# Altium integrated library MR26_GSS.IntLib: 82 symbols (part 2 of 4)
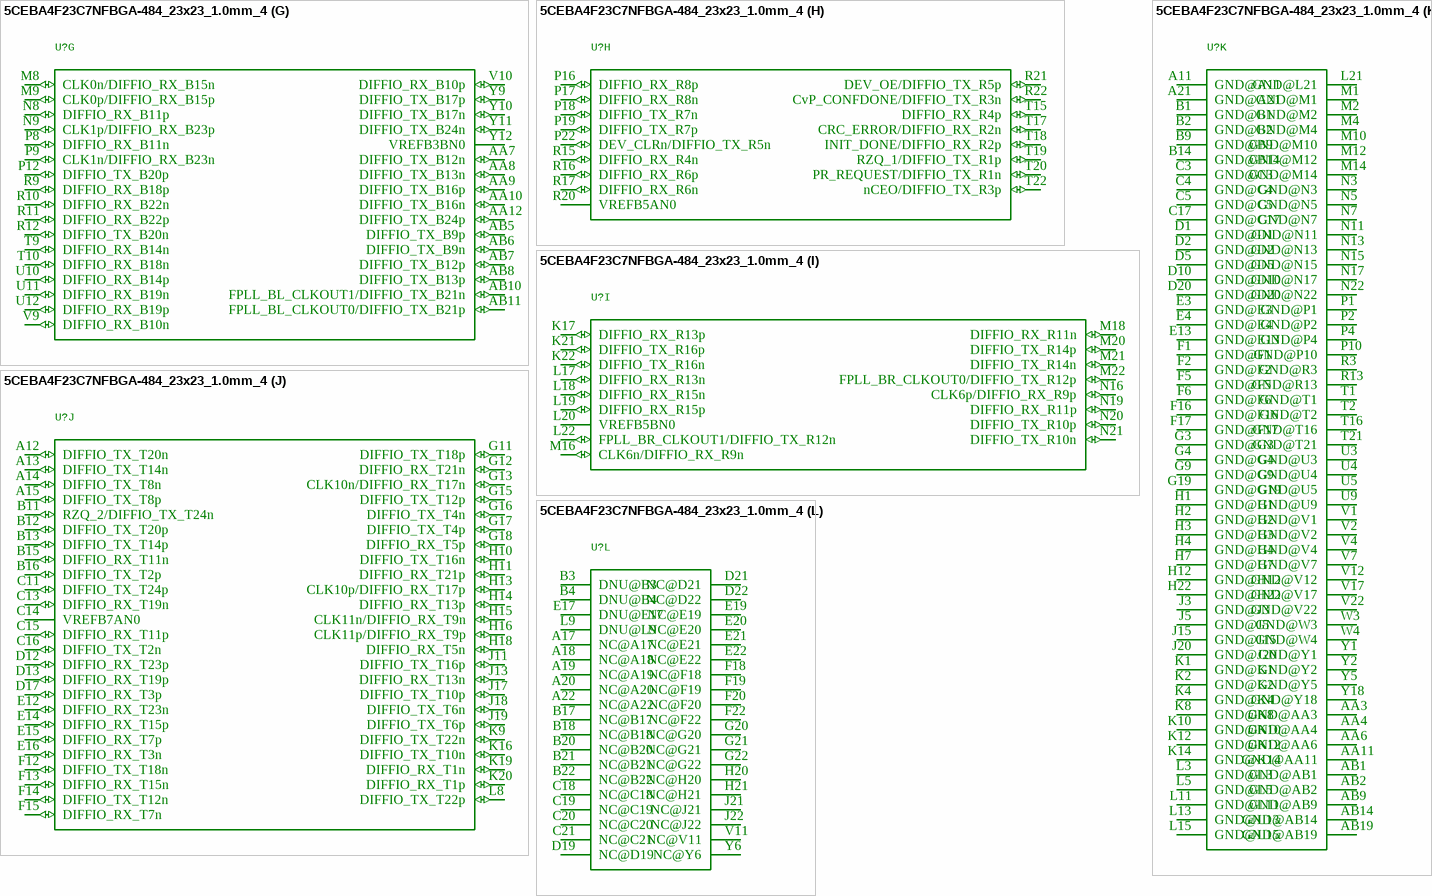
[diagram p19: symbol 5CEBA4F23C7NFBGA-484_23x23_1.0mm_4]

## 5CEBA4F23C7NFBGA-484_23x23_1.0mm_4
designator U?
GateName_1: A; SymbolName_1: 5CEBA4F23C7N_A; GateName_2: B; SymbolName_2: 5CEBA4F23C7N_B; GateName_3: C; SymbolName_3: 5CEBA4F23C7N_C; GateName_4: D; SymbolName_4: 5CEBA4F23C7N_D; GateName_5: E; SymbolName_5: 5CEBA4F23C7N_E; GateName_6: F; SymbolName_6: 5CEBA4F23C7N_F; GateName_7: G; SymbolName_7: 5CEBA4F23C7N_G; GateName_8: H; SymbolName_8: 5CEBA4F23C7N_H; GateName_9: I; SymbolName_9: 5CEBA4F23C7N_I; GateName_10: J; SymbolName_10: 5CEBA4F23C7N_J; GateName_11: K; SymbolName_11: 5CEBA4F23C7N_K; GateName_12: L; SymbolName_12: 5CEBA4F23C7N_L; DeviceName: FBGA-484_23x23_1.0mm; DeviceSetName: 5CEBA4F23C7N; LibraryName: MR26; Package: FBGA-484_23x23_1.0mm
footprint FBGA-484_23x23_1.0mm
part A pins: A1 RREF_TL, A3 VCCBAT (power), A6 VCCIO8A@A6 (power), A16 VCCIO7A@A16 (power), AA16 VCCIO4A@AA16 (power), AA21 VCCIO4A@AA21 (power), B19 VCCIO7A@B19 (power), C7 VCCIO8A@C7 (power), C10 VCCPD7A8A@C10 (power), C12 VCCIO7A@C12 (power), C22 VCCIO7A@C22 (power), D4 VCCIO2A@D4 (power), D8 VCCPD7A8A@D8 (power), D11 VCC_AUX@D11 (power), D14 VCCPD7A8A@D14 (power), D15 VCCIO7A@D15 (power), D16 VCCPD7A8A@D16 (power), D18 VCC_AUX@D18 (power), E1 VCCPD1A2A@E1 (power), E6 VCC_AUX@E6 (power), E8 VCCIO8A@E8 (power), E11 VCCPD7A8A@E11 (power), E18 VCCIO7A@E18 (power), F4 VCCA_FPLL@F4 (power), F8 VCCPGM@F8 (power), F11 VCCIO7A@F11 (power), F21 VCCIO7A@F21 (power), G7 VCCIO8A@G7 (power), G14 VCCIO7A@G14 (power), H17 VCCIO7A@H17 (power), H19 VCCA_FPLL@H19 (power), J1 VCCIO2A@J1 (power), J2 VCCPD1A2A@J2 (power), J4 VCC@J4 (power), J10 VCC@J10 (power), J12 VCC@J12 (power), J14 VCC@J14 (power), J16 VCC@J16 (power), K3 VCC@K3 (power), K5 VCC@K5 (power), K11 VCC@K11 (power), K13 VCC@K13 (power), K15 VCC@K15 (power), K18 VCCIO5B@K18 (power), L4 VCC@L4 (power), L10 VCC@L10 (power), L12 VCC@L12 (power), L14 VCC@L14 (power), L16 VCC@L16 (power), M3 VCCA_FPLL@M3 (power), M11 VCC@M11 (power), M13 VCC@M13 (power), M15 VCC@M15 (power), M17 VCCPD5B@M17 (power), M19 VCCIO5B@M19 (power), N4 VCC@N4 (power), N10 VCC@N10 (power), N12 VCC@N12 (power), N14 VCC@N14 (power), N18 VCCPD5B@N18 (power), P3 VCC@P3 (power), P11 VCC@P11 (power), P13 VCC@P13 (power), P15 VCC@P15 (power), P20 VCCIO5A@P20 (power), P21 VCCPD5A (power), R1 VCCIO2A@R1 (power), R2 VCCPD1A2A@R2 (power), R8 VCCIO3B@R8 (power), R18 VCCIO5A@R18 (power), R19 VCCPGM@R19 (power), T3 VCCA_FPLL@T3 (power), T5 VCCA_FPLL@T5 (power), T6 VCCIO3A@T6 (power), T11 VCCIO3B@T11 (power), U14 VCCIO4A@U14 (power), U18 VCCA_FPLL@U18 (power), U19 VCCIO4A@U19 (power), V8 VCCPGM@V8 (power), W6 VCCPD3A (power), W7 VCC_AUX@W7 (power), W10 VCCIO3B@W10 (power), W11 VCCPD3B4A@W11 (power), W12 VCCPD3B4A@W12 (power), W13 VCC_AUX@W13 (power), W14 VCCPD3B4A@W14 (power), W15 VCCIO4A@W15 (power), W17 VCCPD3B4A@W17 (power), W18 VCC_AUX@W18 (power), W20 VCCIO4A@W20 (power), Y4 VCCIO2A@Y4 (power), Y8 VCCIO3A@Y8 (power), Y13 VCCIO3B@Y13 (power)
part B pins: A2 MSEL2 (in), A4 nCONFIG (in), E5 MSEL3 (in), F3 MSEL4 (in), G5 nCE (in), H5 nSTATUS (oc), J6 MSEL1 (in), K6 CONF_DONE (oc), L6 MSEL0 (in)
part C pins: AA5 AS_DATA2 (io), AB3 AS_DATA1 (io), AB4 AS_DATA0,ASDO (io), M5 TDO (out), M6 PR_DONE/DIFFIO_RX_B7n (io), M7 PR_ERROR/DIFFIO_RX_B7p (io), N6 DATA12/DIFFIO_RX_B3p (io), P5 TMS (in), P6 DATA10/DIFFIO_RX_B3n (io), P7 DIFFIO_TX_B8p (io), R4 nCSO (out), R5 DATA8/DIFFIO_RX_B1p (io), R6 DATA6/DIFFIO_RX_B1n (io), R7 PR_READY/DIFFIO_TX_B8n (io), T4 AS_DATA3 (io), T7 DATA14/DIFFIO_RX_B5n (io), T8 CLKUSR/DIFFIO_RX_B5p (io), U6 DATA13/DIFFIO_TX_B6n (io), U7 DATA5/DIFFIO_TX_B2n (io), U8 DATA7/DIFFIO_TX_B2p (io), V3 DCLK (io), V5 TCK (in), V6 DATA15/DIFFIO_TX_B6p (io), W5 TDI (in), W8 DATA9/DIFFIO_TX_B4n (io), W9 DATA11/DIFFIO_TX_B4p (io), Y7 VREFB3AN0 (power)
part D pins: A5 DIFFIO_TX_T32p (io), A7 DIFFIO_RX_T35n (io), A8 DIFFIO_RX_T35p (io), A9 DIFFIO_TX_T30n (io), A10 DIFFIO_TX_T30p (io), B5 DIFFIO_TX_T32n (io), B6 DIFFIO_TX_T34p (io), B7 DIFFIO_TX_T34n (io), B8 VREFB8AN0 (power), B10 DIFFIO_RX_T31p (io), C6 DIFFIO_TX_T36p (io), C8 DIFFIO_TX_T38n (io), C9 DIFFIO_RX_T31n (io), D6 DIFFIO_TX_T36n (io), D7 DIFFIO_TX_T38p (io), D9 DIFFIO_RX_T37n (io), E7 DIFFIO_TX_T40n (io), E9 DIFFIO_RX_T37p (io), E10 CLK8p/DIFFIO_RX_T33p (io), F7 DIFFIO_TX_T40p (io), F9 CLK8n/DIFFIO_RX_T33n (io), F10 CLK9n/DIFFIO_RX_T25n (io), G6 DIFFIO_RX_T39p (io), G8 FPLL_TL_CLKOUT1/DIFFIO_TX_T28n (io), G10 CLK9p/DIFFIO_RX_T25p (io), H6 DIFFIO_RX_T39n (io), H8 FPLL_TL_CLKOUT0/DIFFIO_TX_T28p (io), H9 DIFFIO_RX_T29n (io), J7 DIFFIO_RX_T27p (io), J8 DIFFIO_RX_T27n (io), J9 DIFFIO_RX_T29p (io), K7 DIFFIO_TX_T26n (io), L7 DIFFIO_TX_T26p (io)
part E pins: AA13 DIFFIO_TX_B28p (io), AA14 DIFFIO_TX_B28n (io), AA15 DIFFIO_TX_B29p (io), AA17 DIFFIO_TX_B36n (io), AA18 DIFFIO_TX_B36p (io), AA19 DIFFIO_TX_B37n (io), AA20 DIFFIO_TX_B37p (io), AA22 DIFFIO_TX_B40p (io), AB12 DIFFIO_TX_B25p (io), AB13 RZQ_0/DIFFIO_TX_B25n (io), AB15 DIFFIO_TX_B29n (io), AB16 VREFB4AN0 (power), AB17 DIFFIO_TX_B32n (io), AB18 DIFFIO_TX_B32p (io), AB20 DIFFIO_TX_B33n (io), AB21 DIFFIO_TX_B33p (io), AB22 DIFFIO_TX_B40n (io), P14 DIFFIO_RX_B43n (io), R14 DIFFIO_RX_B43p (io), T12 DIFFIO_RX_B27n (io), T13 DIFFIO_RX_B27p (io), T14 DIFFIO_RX_B35n (io), U13 DIFFIO_RX_B26p (io), U15 DIFFIO_RX_B35p (io), U16 DIFFIO_RX_B47n (io), U17 DIFFIO_RX_B47p (io), U20 DIFFIO_TX_B48p (io), U21 DIFFIO_TX_B48n (io), U22 DIFFIO_TX_B45n (io), V13 DIFFIO_RX_B26n (io), V14 CLK2n/DIFFIO_RX_B31n (io), V15 CLK2p/DIFFIO_RX_B31p (io), V16 CLK3n/DIFFIO_RX_B39n (io), V18 DIFFIO_RX_B46p (io), V19 DIFFIO_RX_B46n (io), V20 DIFFIO_RX_B38n (io), V21 DIFFIO_TX_B45p (io), W16 CLK3p/DIFFIO_RX_B39p (io), W19 DIFFIO_RX_B38p (io), W21 DIFFIO_TX_B44p (io), W22 DIFFIO_TX_B41p (io), Y14 DIFFIO_RX_B30n (io), Y15 DIFFIO_RX_B30p (io), Y16 DIFFIO_RX_B34n (io), Y17 DIFFIO_RX_B34p (io), Y19 DIFFIO_RX_B42p (io), Y20 DIFFIO_RX_B42n (io), Y21 DIFFIO_TX_B44n (io), Y22 DIFFIO_TX_B41n (io)
part F pins: AA1 DIFFIO_TX_L16n (io), AA2 DIFFIO_TX_L16p (io), C1 DIFFIO_TX_L9n (io), C2 DIFFIO_TX_L9p (io), D3 DIFFIO_RX_L11p (io), E2 DIFFIO_RX_L11n (io), G1 DIFFIO_RX_L10n (io), G2 DIFFIO_RX_L10p (io), L1 DIFFIO_TX_L12n (io), L2 DIFFIO_TX_L12p (io), N1 DIFFIO_TX_L13n (io), N2 DIFFIO_TX_L13p (io), U1 DIFFIO_RX_L14n (io), U2 DIFFIO_RX_L14p (io), W1 VREFB2AN0 (power), W2 DIFFIO_RX_L15n (io), Y3 DIFFIO_RX_L15p (io)
part G pins: AA7 DIFFIO_TX_B12n (io), AA8 DIFFIO_TX_B13n (io), AA9 DIFFIO_TX_B16p (io), AA10 DIFFIO_TX_B16n (io), AA12 DIFFIO_TX_B24p (io), AB5 DIFFIO_TX_B9p (io), AB6 DIFFIO_TX_B9n (io), AB7 DIFFIO_TX_B12p (io), AB8 DIFFIO_TX_B13p (io), AB10 FPLL_BL_CLKOUT1/DIFFIO_TX_B21n (io), AB11 FPLL_BL_CLKOUT0/DIFFIO_TX_B21p (io), M8 CLK0n/DIFFIO_RX_B15n (io), M9 CLK0p/DIFFIO_RX_B15p (io), N8 DIFFIO_RX_B11p (io), N9 CLK1p/DIFFIO_RX_B23p (io), P8 DIFFIO_RX_B11n (io), P9 CLK1n/DIFFIO_RX_B23n (io), P12 DIFFIO_TX_B20p (io), R9 DIFFIO_RX_B18p (io), R10 DIFFIO_RX_B22n (io), R11 DIFFIO_RX_B22p (io), R12 DIFFIO_TX_B20n (io), T9 DIFFIO_RX_B14n (io), T10 DIFFIO_RX_B18n (io), U10 DIFFIO_RX_B14p (io), U11 DIFFIO_RX_B19n (io), U12 DIFFIO_RX_B19p (io), V9 DIFFIO_RX_B10n (io), V10 DIFFIO_RX_B10p (io), Y9 DIFFIO_TX_B17p (io), Y10 DIFFIO_TX_B17n (io), Y11 DIFFIO_TX_B24n (io), Y12 VREFB3BN0 (power)
part H pins: P16 DIFFIO_RX_R8p (io), P17 DIFFIO_RX_R8n (io), P18 DIFFIO_TX_R7n (io), P19 DIFFIO_TX_R7p (io), P22 DEV_CLRn/DIFFIO_TX_R5n (io), R15 DIFFIO_RX_R4n (io), R16 DIFFIO_RX_R6p (io), R17 DIFFIO_RX_R6n (io), R20 VREFB5AN0 (power), R21 DEV_OE/DIFFIO_TX_R5p (io), R22 CvP_CONFDONE/DIFFIO_TX_R3n (io), T15 DIFFIO_RX_R4p (io), T17 CRC_ERROR/DIFFIO_RX_R2n (io), T18 INIT_DONE/DIFFIO_RX_R2p (io), T19 RZQ_1/DIFFIO_TX_R1p (io), T20 PR_REQUEST/DIFFIO_TX_R1n (io), T22 nCEO/DIFFIO_TX_R3p (io)
part I pins: K17 DIFFIO_RX_R13p (io), K21 DIFFIO_TX_R16p (io), K22 DIFFIO_TX_R16n (io), L17 DIFFIO_RX_R13n (io), L18 DIFFIO_RX_R15n (io), L19 DIFFIO_RX_R15p (io), L20 VREFB5BN0 (power), L22 FPLL_BR_CLKOUT1/DIFFIO_TX_R12n (io), M16 CLK6n/DIFFIO_RX_R9n (io), M18 DIFFIO_RX_R11n (io), M20 DIFFIO_TX_R14p (io), M21 DIFFIO_TX_R14n (io), M22 FPLL_BR_CLKOUT0/DIFFIO_TX_R12p (io), N16 CLK6p/DIFFIO_RX_R9p (io), N19 DIFFIO_RX_R11p (io), N20 DIFFIO_TX_R10p (io), N21 DIFFIO_TX_R10n (io)
part J pins: A12 DIFFIO_TX_T20n (io), A13 DIFFIO_TX_T14n (io), A14 DIFFIO_TX_T8n (io), A15 DIFFIO_TX_T8p (io), B11 RZQ_2/DIFFIO_TX_T24n (io), B12 DIFFIO_TX_T20p (io), B13 DIFFIO_TX_T14p (io), B15 DIFFIO_RX_T11n (io), B16 DIFFIO_TX_T2p (io), C11 DIFFIO_TX_T24p (io), C13 DIFFIO_RX_T19n (io), C14 VREFB7AN0 (power), C15 DIFFIO_RX_T11p (io), C16 DIFFIO_TX_T2n (io), D12 DIFFIO_RX_T23p (io), D13 DIFFIO_RX_T19p (io), D17 DIFFIO_RX_T3p (io), E12 DIFFIO_RX_T23n (io), E14 DIFFIO_RX_T15p (io), E15 DIFFIO_RX_T7p (io), E16 DIFFIO_RX_T3n (io), F12 DIFFIO_TX_T18n (io), F13 DIFFIO_RX_T15n (io), F14 DIFFIO_TX_T12n (io), F15 DIFFIO_RX_T7n (io), G11 DIFFIO_TX_T18p (io), G12 DIFFIO_RX_T21n (io), G13 CLK10n/DIFFIO_RX_T17n (io), G15 DIFFIO_TX_T12p (io), G16 DIFFIO_TX_T4n (io), G17 DIFFIO_TX_T4p (io), G18 DIFFIO_RX_T5p (io), H10 DIFFIO_TX_T16n (io), H11 DIFFIO_RX_T21p (io), H13 CLK10p/DIFFIO_RX_T17p (io), H14 DIFFIO_RX_T13p (io), H15 CLK11n/DIFFIO_RX_T9n (io), H16 CLK11p/DIFFIO_RX_T9p (io), H18 DIFFIO_RX_T5n (io), J11 DIFFIO_TX_T16p (io), J13 DIFFIO_RX_T13n (io), J17 DIFFIO_TX_T10p (io), J18 DIFFIO_TX_T6n (io), J19 DIFFIO_TX_T6p (io), K9 DIFFIO_TX_T22n (io), K16 DIFFIO_TX_T10n (io), K19 DIFFIO_RX_T1n (io), K20 DIFFIO_RX_T1p (io), L8 DIFFIO_TX_T22p (io)
part K pins: A11 GND@A11 (power), A21 GND@A21 (power), AA3 GND@AA3 (power), AA4 GND@AA4 (power), AA6 GND@AA6 (power), AA11 GND@AA11 (power), AB1 GND@AB1 (power), AB2 GND@AB2 (power), AB9 GND@AB9 (power), AB14 GND@AB14 (power), AB19 GND@AB19 (power), B1 GND@B1 (power), B2 GND@B2 (power), B9 GND@B9 (power), B14 GND@B14 (power), C3 GND@C3 (power), C4 GND@C4 (power), C5 GND@C5 (power), C17 GND@C17 (power), D1 GND@D1 (power), D2 GND@D2 (power), D5 GND@D5 (power), D10 GND@D10 (power), D20 GND@D20 (power), E3 GND@E3 (power), E4 GND@E4 (power), E13 GND@E13 (power), F1 GND@F1 (power), F2 GND@F2 (power), F5 GND@F5 (power), F6 GND@F6 (power), F16 GND@F16 (power), F17 GND@F17 (power), G3 GND@G3 (power), G4 GND@G4 (power), G9 GND@G9 (power), G19 GND@G19 (power), H1 GND@H1 (power), H2 GND@H2 (power), H3 GND@H3 (power), H4 GND@H4 (power), H7 GND@H7 (power), H12 GND@H12 (power), H22 GND@H22 (power), J3 GND@J3 (power), J5 GND@J5 (power), J15 GND@J15 (power), J20 GND@J20 (power), K1 GND@K1 (power), K2 GND@K2 (power), K4 GND@K4 (power), K8 GND@K8 (power), K10 GND@K10 (power), K12 GND@K12 (power), K14 GND@K14 (power), L3 GND@L3 (power), L5 GND@L5 (power), L11 GND@L11 (power), L13 GND@L13 (power), L15 GND@L15 (power), L21 GND@L21 (power), M1 GND@M1 (power), M2 GND@M2 (power), M4 GND@M4 (power), M10 GND@M10 (power), M12 GND@M12 (power), M14 GND@M14 (power), N3 GND@N3 (power), N5 GND@N5 (power), N7 GND@N7 (power), N11 GND@N11 (power), N13 GND@N13 (power), N15 GND@N15 (power), N17 GND@N17 (power), N22 GND@N22 (power), P1 GND@P1 (power), P2 GND@P2 (power), P4 GND@P4 (power), P10 GND@P10 (power), R3 GND@R3 (power), R13 GND@R13 (power), T1 GND@T1 (power), T2 GND@T2 (power), T16 GND@T16 (power), T21 GND@T21 (power), U3 GND@U3 (power), U4 GND@U4 (power), U5 GND@U5 (power), U9 GND@U9 (power), V1 GND@V1 (power), V2 GND@V2 (power), V4 GND@V4 (power), V7 GND@V7 (power), V12 GND@V12 (power), V17 GND@V17 (power), V22 GND@V22 (power), W3 GND@W3 (power), W4 GND@W4 (power), Y1 GND@Y1 (power), Y2 GND@Y2 (power), Y5 GND@Y5 (power), Y18 GND@Y18 (power)
part L pins: A17 NC@A17, A18 NC@A18, A19 NC@A19, A20 NC@A20, A22 NC@A22, B3 DNU@B3, B4 DNU@B4, B17 NC@B17, B18 NC@B18, B20 NC@B20, B21 NC@B21, B22 NC@B22, C18 NC@C18, C19 NC@C19, C20 NC@C20, C21 NC@C21, D19 NC@D19, D21 NC@D21, D22 NC@D22, E17 DNU@E17, E19 NC@E19, E20 NC@E20, E21 NC@E21, E22 NC@E22, F18 NC@F18, F19 NC@F19, F20 NC@F20, F22 NC@F22, G20 NC@G20, G21 NC@G21, G22 NC@G22, H20 NC@H20, H21 NC@H21, J21 NC@J21, J22 NC@J22, L9 DNU@L9, V11 NC@V11, Y6 NC@Y6

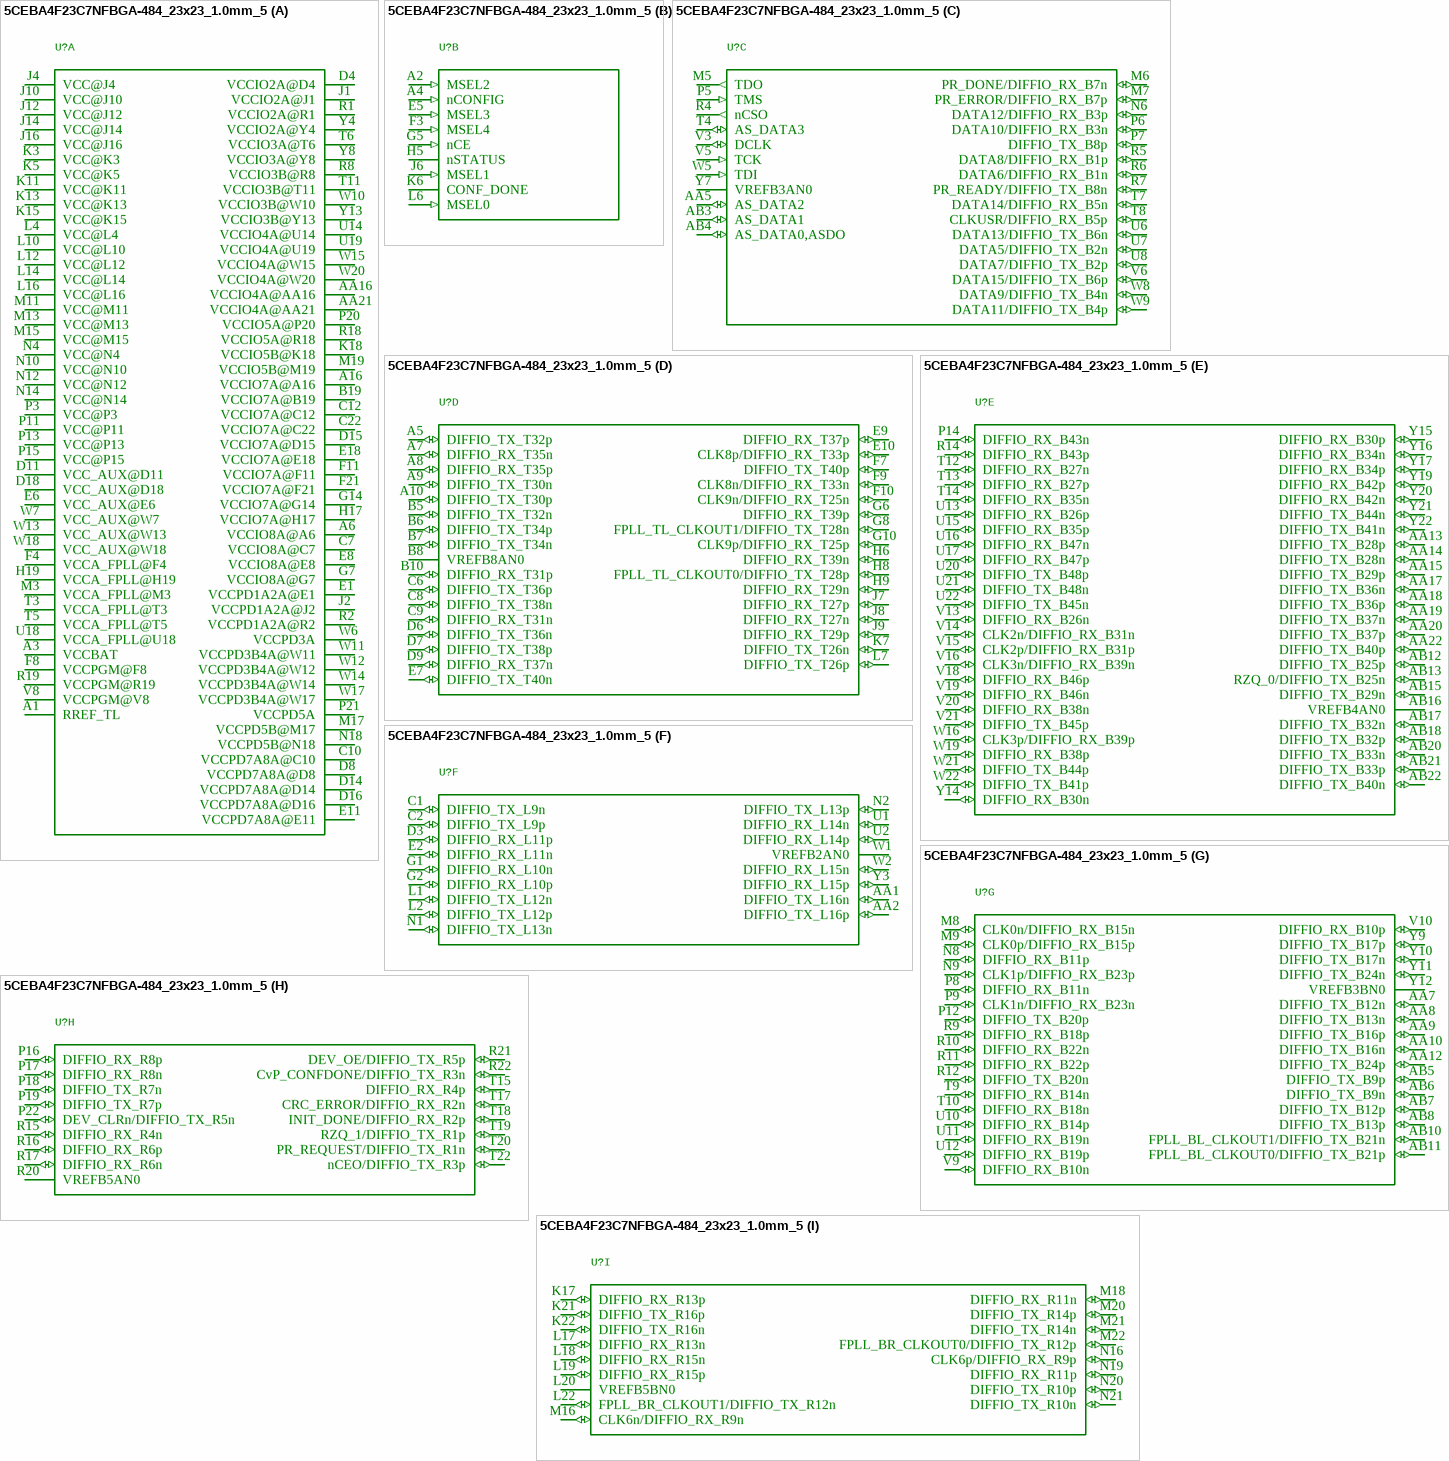
[diagram p7: symbol 5CEBA4F23C7NFBGA-484_23x23_1.0mm_5]

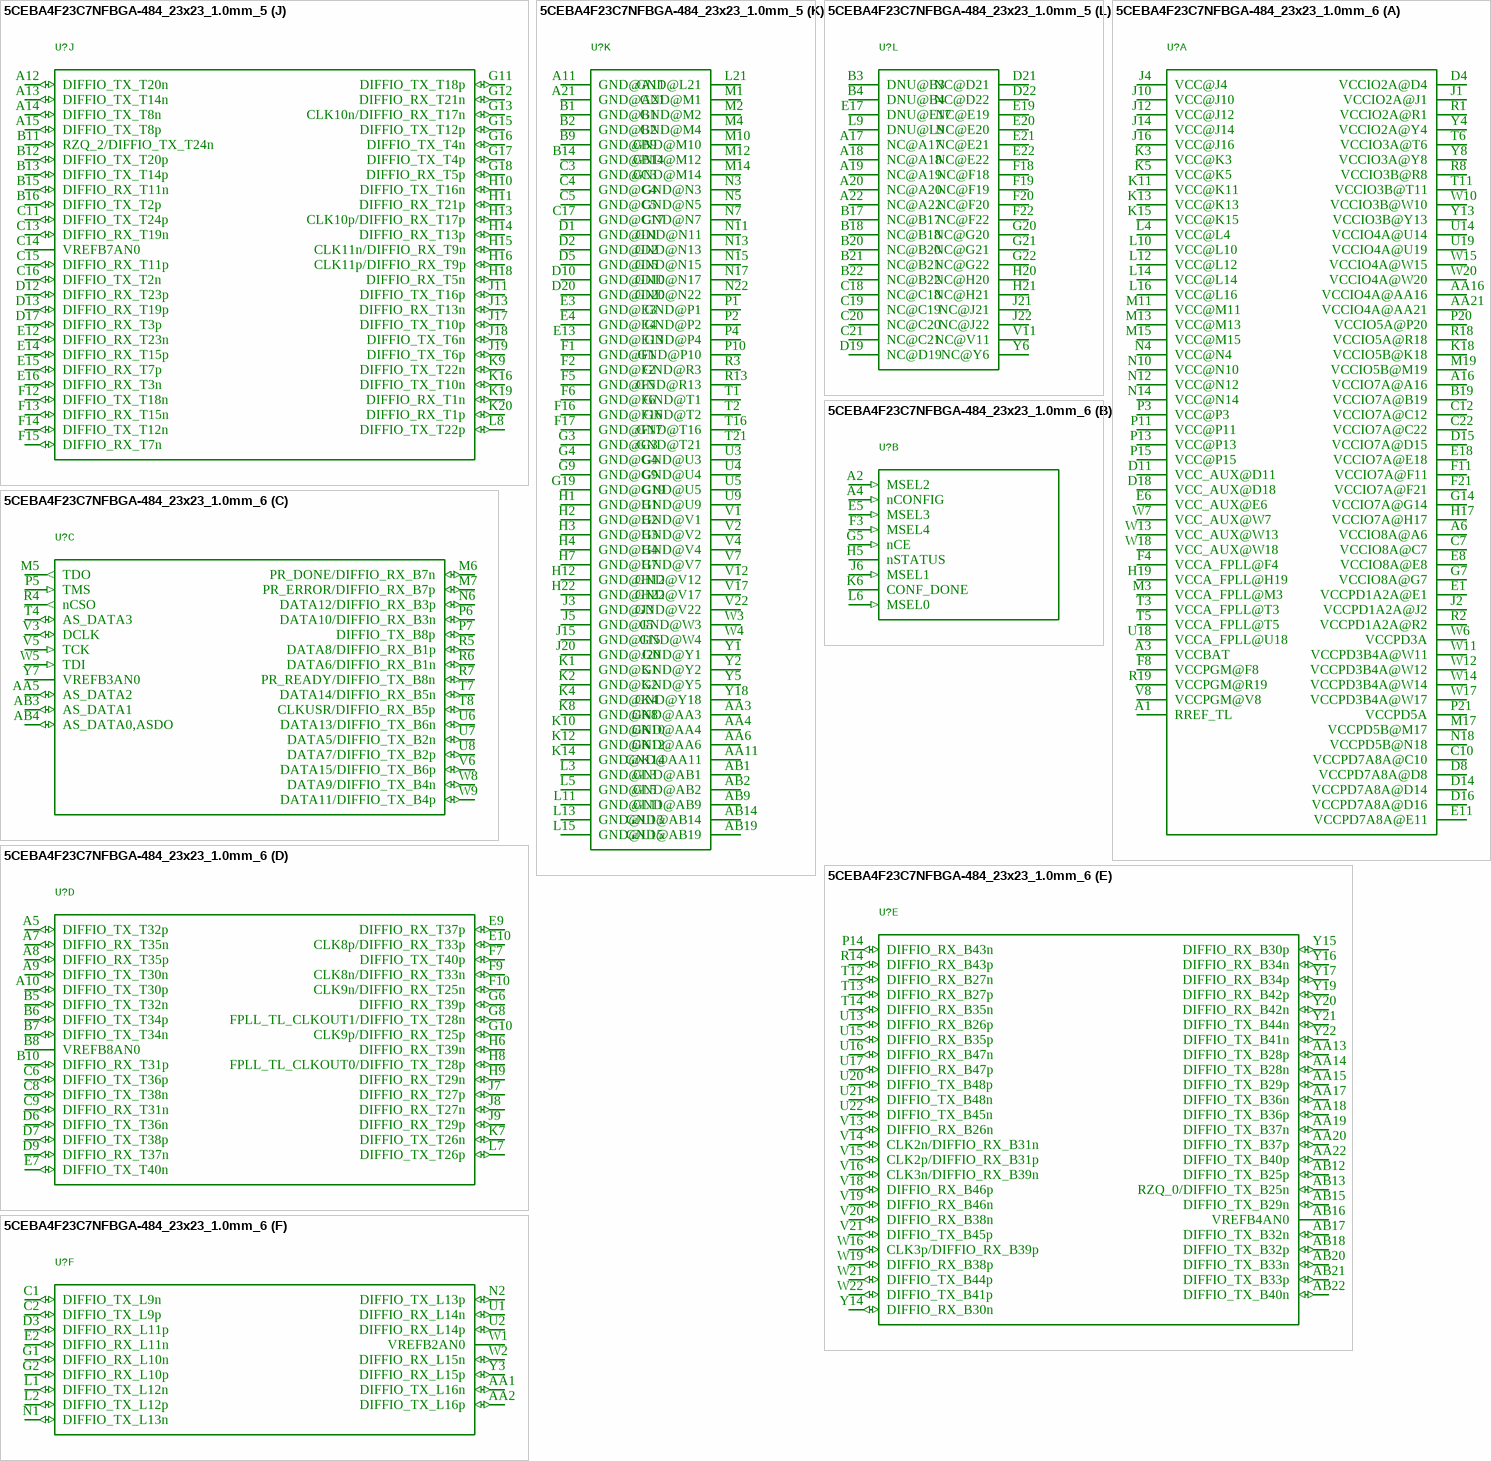
[diagram p8: symbols 5CEBA4F23C7NFBGA-484_23x23_1.0mm_5 to 5CEBA4F23C7NFBGA-484_23x23_1.0mm_6]

## 5CEBA4F23C7NFBGA-484_23x23_1.0mm_5
designator U?
GateName_1: A; SymbolName_1: 5CEBA4F23C7N_A; GateName_2: B; SymbolName_2: 5CEBA4F23C7N_B; GateName_3: C; SymbolName_3: 5CEBA4F23C7N_C; GateName_4: D; SymbolName_4: 5CEBA4F23C7N_D; GateName_5: E; SymbolName_5: 5CEBA4F23C7N_E; GateName_6: F; SymbolName_6: 5CEBA4F23C7N_F; GateName_7: G; SymbolName_7: 5CEBA4F23C7N_G; GateName_8: H; SymbolName_8: 5CEBA4F23C7N_H; GateName_9: I; SymbolName_9: 5CEBA4F23C7N_I; GateName_10: J; SymbolName_10: 5CEBA4F23C7N_J; GateName_11: K; SymbolName_11: 5CEBA4F23C7N_K; GateName_12: L; SymbolName_12: 5CEBA4F23C7N_L; DeviceName: FBGA-484_23x23_1.0mm; DeviceSetName: 5CEBA4F23C7N; LibraryName: MR26; Package: FBGA-484_23x23_1.0mm
footprint FBGA-484_23x23_1.0mm
part A pins: A1 RREF_TL, A3 VCCBAT (power), A6 VCCIO8A@A6 (power), A16 VCCIO7A@A16 (power), AA16 VCCIO4A@AA16 (power), AA21 VCCIO4A@AA21 (power), B19 VCCIO7A@B19 (power), C7 VCCIO8A@C7 (power), C10 VCCPD7A8A@C10 (power), C12 VCCIO7A@C12 (power), C22 VCCIO7A@C22 (power), D4 VCCIO2A@D4 (power), D8 VCCPD7A8A@D8 (power), D11 VCC_AUX@D11 (power), D14 VCCPD7A8A@D14 (power), D15 VCCIO7A@D15 (power), D16 VCCPD7A8A@D16 (power), D18 VCC_AUX@D18 (power), E1 VCCPD1A2A@E1 (power), E6 VCC_AUX@E6 (power), E8 VCCIO8A@E8 (power), E11 VCCPD7A8A@E11 (power), E18 VCCIO7A@E18 (power), F4 VCCA_FPLL@F4 (power), F8 VCCPGM@F8 (power), F11 VCCIO7A@F11 (power), F21 VCCIO7A@F21 (power), G7 VCCIO8A@G7 (power), G14 VCCIO7A@G14 (power), H17 VCCIO7A@H17 (power), H19 VCCA_FPLL@H19 (power), J1 VCCIO2A@J1 (power), J2 VCCPD1A2A@J2 (power), J4 VCC@J4 (power), J10 VCC@J10 (power), J12 VCC@J12 (power), J14 VCC@J14 (power), J16 VCC@J16 (power), K3 VCC@K3 (power), K5 VCC@K5 (power), K11 VCC@K11 (power), K13 VCC@K13 (power), K15 VCC@K15 (power), K18 VCCIO5B@K18 (power), L4 VCC@L4 (power), L10 VCC@L10 (power), L12 VCC@L12 (power), L14 VCC@L14 (power), L16 VCC@L16 (power), M3 VCCA_FPLL@M3 (power), M11 VCC@M11 (power), M13 VCC@M13 (power), M15 VCC@M15 (power), M17 VCCPD5B@M17 (power), M19 VCCIO5B@M19 (power), N4 VCC@N4 (power), N10 VCC@N10 (power), N12 VCC@N12 (power), N14 VCC@N14 (power), N18 VCCPD5B@N18 (power), P3 VCC@P3 (power), P11 VCC@P11 (power), P13 VCC@P13 (power), P15 VCC@P15 (power), P20 VCCIO5A@P20 (power), P21 VCCPD5A (power), R1 VCCIO2A@R1 (power), R2 VCCPD1A2A@R2 (power), R8 VCCIO3B@R8 (power), R18 VCCIO5A@R18 (power), R19 VCCPGM@R19 (power), T3 VCCA_FPLL@T3 (power), T5 VCCA_FPLL@T5 (power), T6 VCCIO3A@T6 (power), T11 VCCIO3B@T11 (power), U14 VCCIO4A@U14 (power), U18 VCCA_FPLL@U18 (power), U19 VCCIO4A@U19 (power), V8 VCCPGM@V8 (power), W6 VCCPD3A (power), W7 VCC_AUX@W7 (power), W10 VCCIO3B@W10 (power), W11 VCCPD3B4A@W11 (power), W12 VCCPD3B4A@W12 (power), W13 VCC_AUX@W13 (power), W14 VCCPD3B4A@W14 (power), W15 VCCIO4A@W15 (power), W17 VCCPD3B4A@W17 (power), W18 VCC_AUX@W18 (power), W20 VCCIO4A@W20 (power), Y4 VCCIO2A@Y4 (power), Y8 VCCIO3A@Y8 (power), Y13 VCCIO3B@Y13 (power)
part B pins: A2 MSEL2 (in), A4 nCONFIG (in), E5 MSEL3 (in), F3 MSEL4 (in), G5 nCE (in), H5 nSTATUS (oc), J6 MSEL1 (in), K6 CONF_DONE (oc), L6 MSEL0 (in)
part C pins: AA5 AS_DATA2 (io), AB3 AS_DATA1 (io), AB4 AS_DATA0,ASDO (io), M5 TDO (out), M6 PR_DONE/DIFFIO_RX_B7n (io), M7 PR_ERROR/DIFFIO_RX_B7p (io), N6 DATA12/DIFFIO_RX_B3p (io), P5 TMS (in), P6 DATA10/DIFFIO_RX_B3n (io), P7 DIFFIO_TX_B8p (io), R4 nCSO (out), R5 DATA8/DIFFIO_RX_B1p (io), R6 DATA6/DIFFIO_RX_B1n (io), R7 PR_READY/DIFFIO_TX_B8n (io), T4 AS_DATA3 (io), T7 DATA14/DIFFIO_RX_B5n (io), T8 CLKUSR/DIFFIO_RX_B5p (io), U6 DATA13/DIFFIO_TX_B6n (io), U7 DATA5/DIFFIO_TX_B2n (io), U8 DATA7/DIFFIO_TX_B2p (io), V3 DCLK (io), V5 TCK (in), V6 DATA15/DIFFIO_TX_B6p (io), W5 TDI (in), W8 DATA9/DIFFIO_TX_B4n (io), W9 DATA11/DIFFIO_TX_B4p (io), Y7 VREFB3AN0 (power)
part D pins: A5 DIFFIO_TX_T32p (io), A7 DIFFIO_RX_T35n (io), A8 DIFFIO_RX_T35p (io), A9 DIFFIO_TX_T30n (io), A10 DIFFIO_TX_T30p (io), B5 DIFFIO_TX_T32n (io), B6 DIFFIO_TX_T34p (io), B7 DIFFIO_TX_T34n (io), B8 VREFB8AN0 (power), B10 DIFFIO_RX_T31p (io), C6 DIFFIO_TX_T36p (io), C8 DIFFIO_TX_T38n (io), C9 DIFFIO_RX_T31n (io), D6 DIFFIO_TX_T36n (io), D7 DIFFIO_TX_T38p (io), D9 DIFFIO_RX_T37n (io), E7 DIFFIO_TX_T40n (io), E9 DIFFIO_RX_T37p (io), E10 CLK8p/DIFFIO_RX_T33p (io), F7 DIFFIO_TX_T40p (io), F9 CLK8n/DIFFIO_RX_T33n (io), F10 CLK9n/DIFFIO_RX_T25n (io), G6 DIFFIO_RX_T39p (io), G8 FPLL_TL_CLKOUT1/DIFFIO_TX_T28n (io), G10 CLK9p/DIFFIO_RX_T25p (io), H6 DIFFIO_RX_T39n (io), H8 FPLL_TL_CLKOUT0/DIFFIO_TX_T28p (io), H9 DIFFIO_RX_T29n (io), J7 DIFFIO_RX_T27p (io), J8 DIFFIO_RX_T27n (io), J9 DIFFIO_RX_T29p (io), K7 DIFFIO_TX_T26n (io), L7 DIFFIO_TX_T26p (io)
part E pins: AA13 DIFFIO_TX_B28p (io), AA14 DIFFIO_TX_B28n (io), AA15 DIFFIO_TX_B29p (io), AA17 DIFFIO_TX_B36n (io), AA18 DIFFIO_TX_B36p (io), AA19 DIFFIO_TX_B37n (io), AA20 DIFFIO_TX_B37p (io), AA22 DIFFIO_TX_B40p (io), AB12 DIFFIO_TX_B25p (io), AB13 RZQ_0/DIFFIO_TX_B25n (io), AB15 DIFFIO_TX_B29n (io), AB16 VREFB4AN0 (power), AB17 DIFFIO_TX_B32n (io), AB18 DIFFIO_TX_B32p (io), AB20 DIFFIO_TX_B33n (io), AB21 DIFFIO_TX_B33p (io), AB22 DIFFIO_TX_B40n (io), P14 DIFFIO_RX_B43n (io), R14 DIFFIO_RX_B43p (io), T12 DIFFIO_RX_B27n (io), T13 DIFFIO_RX_B27p (io), T14 DIFFIO_RX_B35n (io), U13 DIFFIO_RX_B26p (io), U15 DIFFIO_RX_B35p (io), U16 DIFFIO_RX_B47n (io), U17 DIFFIO_RX_B47p (io), U20 DIFFIO_TX_B48p (io), U21 DIFFIO_TX_B48n (io), U22 DIFFIO_TX_B45n (io), V13 DIFFIO_RX_B26n (io), V14 CLK2n/DIFFIO_RX_B31n (io), V15 CLK2p/DIFFIO_RX_B31p (io), V16 CLK3n/DIFFIO_RX_B39n (io), V18 DIFFIO_RX_B46p (io), V19 DIFFIO_RX_B46n (io), V20 DIFFIO_RX_B38n (io), V21 DIFFIO_TX_B45p (io), W16 CLK3p/DIFFIO_RX_B39p (io), W19 DIFFIO_RX_B38p (io), W21 DIFFIO_TX_B44p (io), W22 DIFFIO_TX_B41p (io), Y14 DIFFIO_RX_B30n (io), Y15 DIFFIO_RX_B30p (io), Y16 DIFFIO_RX_B34n (io), Y17 DIFFIO_RX_B34p (io), Y19 DIFFIO_RX_B42p (io), Y20 DIFFIO_RX_B42n (io), Y21 DIFFIO_TX_B44n (io), Y22 DIFFIO_TX_B41n (io)
part F pins: AA1 DIFFIO_TX_L16n (io), AA2 DIFFIO_TX_L16p (io), C1 DIFFIO_TX_L9n (io), C2 DIFFIO_TX_L9p (io), D3 DIFFIO_RX_L11p (io), E2 DIFFIO_RX_L11n (io), G1 DIFFIO_RX_L10n (io), G2 DIFFIO_RX_L10p (io), L1 DIFFIO_TX_L12n (io), L2 DIFFIO_TX_L12p (io), N1 DIFFIO_TX_L13n (io), N2 DIFFIO_TX_L13p (io), U1 DIFFIO_RX_L14n (io), U2 DIFFIO_RX_L14p (io), W1 VREFB2AN0 (power), W2 DIFFIO_RX_L15n (io), Y3 DIFFIO_RX_L15p (io)
part G pins: AA7 DIFFIO_TX_B12n (io), AA8 DIFFIO_TX_B13n (io), AA9 DIFFIO_TX_B16p (io), AA10 DIFFIO_TX_B16n (io), AA12 DIFFIO_TX_B24p (io), AB5 DIFFIO_TX_B9p (io), AB6 DIFFIO_TX_B9n (io), AB7 DIFFIO_TX_B12p (io), AB8 DIFFIO_TX_B13p (io), AB10 FPLL_BL_CLKOUT1/DIFFIO_TX_B21n (io), AB11 FPLL_BL_CLKOUT0/DIFFIO_TX_B21p (io), M8 CLK0n/DIFFIO_RX_B15n (io), M9 CLK0p/DIFFIO_RX_B15p (io), N8 DIFFIO_RX_B11p (io), N9 CLK1p/DIFFIO_RX_B23p (io), P8 DIFFIO_RX_B11n (io), P9 CLK1n/DIFFIO_RX_B23n (io), P12 DIFFIO_TX_B20p (io), R9 DIFFIO_RX_B18p (io), R10 DIFFIO_RX_B22n (io), R11 DIFFIO_RX_B22p (io), R12 DIFFIO_TX_B20n (io), T9 DIFFIO_RX_B14n (io), T10 DIFFIO_RX_B18n (io), U10 DIFFIO_RX_B14p (io), U11 DIFFIO_RX_B19n (io), U12 DIFFIO_RX_B19p (io), V9 DIFFIO_RX_B10n (io), V10 DIFFIO_RX_B10p (io), Y9 DIFFIO_TX_B17p (io), Y10 DIFFIO_TX_B17n (io), Y11 DIFFIO_TX_B24n (io), Y12 VREFB3BN0 (power)
part H pins: P16 DIFFIO_RX_R8p (io), P17 DIFFIO_RX_R8n (io), P18 DIFFIO_TX_R7n (io), P19 DIFFIO_TX_R7p (io), P22 DEV_CLRn/DIFFIO_TX_R5n (io), R15 DIFFIO_RX_R4n (io), R16 DIFFIO_RX_R6p (io), R17 DIFFIO_RX_R6n (io), R20 VREFB5AN0 (power), R21 DEV_OE/DIFFIO_TX_R5p (io), R22 CvP_CONFDONE/DIFFIO_TX_R3n (io), T15 DIFFIO_RX_R4p (io), T17 CRC_ERROR/DIFFIO_RX_R2n (io), T18 INIT_DONE/DIFFIO_RX_R2p (io), T19 RZQ_1/DIFFIO_TX_R1p (io), T20 PR_REQUEST/DIFFIO_TX_R1n (io), T22 nCEO/DIFFIO_TX_R3p (io)
part I pins: K17 DIFFIO_RX_R13p (io), K21 DIFFIO_TX_R16p (io), K22 DIFFIO_TX_R16n (io), L17 DIFFIO_RX_R13n (io), L18 DIFFIO_RX_R15n (io), L19 DIFFIO_RX_R15p (io), L20 VREFB5BN0 (power), L22 FPLL_BR_CLKOUT1/DIFFIO_TX_R12n (io), M16 CLK6n/DIFFIO_RX_R9n (io), M18 DIFFIO_RX_R11n (io), M20 DIFFIO_TX_R14p (io), M21 DIFFIO_TX_R14n (io), M22 FPLL_BR_CLKOUT0/DIFFIO_TX_R12p (io), N16 CLK6p/DIFFIO_RX_R9p (io), N19 DIFFIO_RX_R11p (io), N20 DIFFIO_TX_R10p (io), N21 DIFFIO_TX_R10n (io)
part J pins: A12 DIFFIO_TX_T20n (io), A13 DIFFIO_TX_T14n (io), A14 DIFFIO_TX_T8n (io), A15 DIFFIO_TX_T8p (io), B11 RZQ_2/DIFFIO_TX_T24n (io), B12 DIFFIO_TX_T20p (io), B13 DIFFIO_TX_T14p (io), B15 DIFFIO_RX_T11n (io), B16 DIFFIO_TX_T2p (io), C11 DIFFIO_TX_T24p (io), C13 DIFFIO_RX_T19n (io), C14 VREFB7AN0 (power), C15 DIFFIO_RX_T11p (io), C16 DIFFIO_TX_T2n (io), D12 DIFFIO_RX_T23p (io), D13 DIFFIO_RX_T19p (io), D17 DIFFIO_RX_T3p (io), E12 DIFFIO_RX_T23n (io), E14 DIFFIO_RX_T15p (io), E15 DIFFIO_RX_T7p (io), E16 DIFFIO_RX_T3n (io), F12 DIFFIO_TX_T18n (io), F13 DIFFIO_RX_T15n (io), F14 DIFFIO_TX_T12n (io), F15 DIFFIO_RX_T7n (io), G11 DIFFIO_TX_T18p (io), G12 DIFFIO_RX_T21n (io), G13 CLK10n/DIFFIO_RX_T17n (io), G15 DIFFIO_TX_T12p (io), G16 DIFFIO_TX_T4n (io), G17 DIFFIO_TX_T4p (io), G18 DIFFIO_RX_T5p (io), H10 DIFFIO_TX_T16n (io), H11 DIFFIO_RX_T21p (io), H13 CLK10p/DIFFIO_RX_T17p (io), H14 DIFFIO_RX_T13p (io), H15 CLK11n/DIFFIO_RX_T9n (io), H16 CLK11p/DIFFIO_RX_T9p (io), H18 DIFFIO_RX_T5n (io), J11 DIFFIO_TX_T16p (io), J13 DIFFIO_RX_T13n (io), J17 DIFFIO_TX_T10p (io), J18 DIFFIO_TX_T6n (io), J19 DIFFIO_TX_T6p (io), K9 DIFFIO_TX_T22n (io), K16 DIFFIO_TX_T10n (io), K19 DIFFIO_RX_T1n (io), K20 DIFFIO_RX_T1p (io), L8 DIFFIO_TX_T22p (io)
part K pins: A11 GND@A11 (power), A21 GND@A21 (power), AA3 GND@AA3 (power), AA4 GND@AA4 (power), AA6 GND@AA6 (power), AA11 GND@AA11 (power), AB1 GND@AB1 (power), AB2 GND@AB2 (power), AB9 GND@AB9 (power), AB14 GND@AB14 (power), AB19 GND@AB19 (power), B1 GND@B1 (power), B2 GND@B2 (power), B9 GND@B9 (power), B14 GND@B14 (power), C3 GND@C3 (power), C4 GND@C4 (power), C5 GND@C5 (power), C17 GND@C17 (power), D1 GND@D1 (power), D2 GND@D2 (power), D5 GND@D5 (power), D10 GND@D10 (power), D20 GND@D20 (power), E3 GND@E3 (power), E4 GND@E4 (power), E13 GND@E13 (power), F1 GND@F1 (power), F2 GND@F2 (power), F5 GND@F5 (power), F6 GND@F6 (power), F16 GND@F16 (power), F17 GND@F17 (power), G3 GND@G3 (power), G4 GND@G4 (power), G9 GND@G9 (power), G19 GND@G19 (power), H1 GND@H1 (power), H2 GND@H2 (power), H3 GND@H3 (power), H4 GND@H4 (power), H7 GND@H7 (power), H12 GND@H12 (power), H22 GND@H22 (power), J3 GND@J3 (power), J5 GND@J5 (power), J15 GND@J15 (power), J20 GND@J20 (power), K1 GND@K1 (power), K2 GND@K2 (power), K4 GND@K4 (power), K8 GND@K8 (power), K10 GND@K10 (power), K12 GND@K12 (power), K14 GND@K14 (power), L3 GND@L3 (power), L5 GND@L5 (power), L11 GND@L11 (power), L13 GND@L13 (power), L15 GND@L15 (power), L21 GND@L21 (power), M1 GND@M1 (power), M2 GND@M2 (power), M4 GND@M4 (power), M10 GND@M10 (power), M12 GND@M12 (power), M14 GND@M14 (power), N3 GND@N3 (power), N5 GND@N5 (power), N7 GND@N7 (power), N11 GND@N11 (power), N13 GND@N13 (power), N15 GND@N15 (power), N17 GND@N17 (power), N22 GND@N22 (power), P1 GND@P1 (power), P2 GND@P2 (power), P4 GND@P4 (power), P10 GND@P10 (power), R3 GND@R3 (power), R13 GND@R13 (power), T1 GND@T1 (power), T2 GND@T2 (power), T16 GND@T16 (power), T21 GND@T21 (power), U3 GND@U3 (power), U4 GND@U4 (power), U5 GND@U5 (power), U9 GND@U9 (power), V1 GND@V1 (power), V2 GND@V2 (power), V4 GND@V4 (power), V7 GND@V7 (power), V12 GND@V12 (power), V17 GND@V17 (power), V22 GND@V22 (power), W3 GND@W3 (power), W4 GND@W4 (power), Y1 GND@Y1 (power), Y2 GND@Y2 (power), Y5 GND@Y5 (power), Y18 GND@Y18 (power)
part L pins: A17 NC@A17, A18 NC@A18, A19 NC@A19, A20 NC@A20, A22 NC@A22, B3 DNU@B3, B4 DNU@B4, B17 NC@B17, B18 NC@B18, B20 NC@B20, B21 NC@B21, B22 NC@B22, C18 NC@C18, C19 NC@C19, C20 NC@C20, C21 NC@C21, D19 NC@D19, D21 NC@D21, D22 NC@D22, E17 DNU@E17, E19 NC@E19, E20 NC@E20, E21 NC@E21, E22 NC@E22, F18 NC@F18, F19 NC@F19, F20 NC@F20, F22 NC@F22, G20 NC@G20, G21 NC@G21, G22 NC@G22, H20 NC@H20, H21 NC@H21, J21 NC@J21, J22 NC@J22, L9 DNU@L9, V11 NC@V11, Y6 NC@Y6

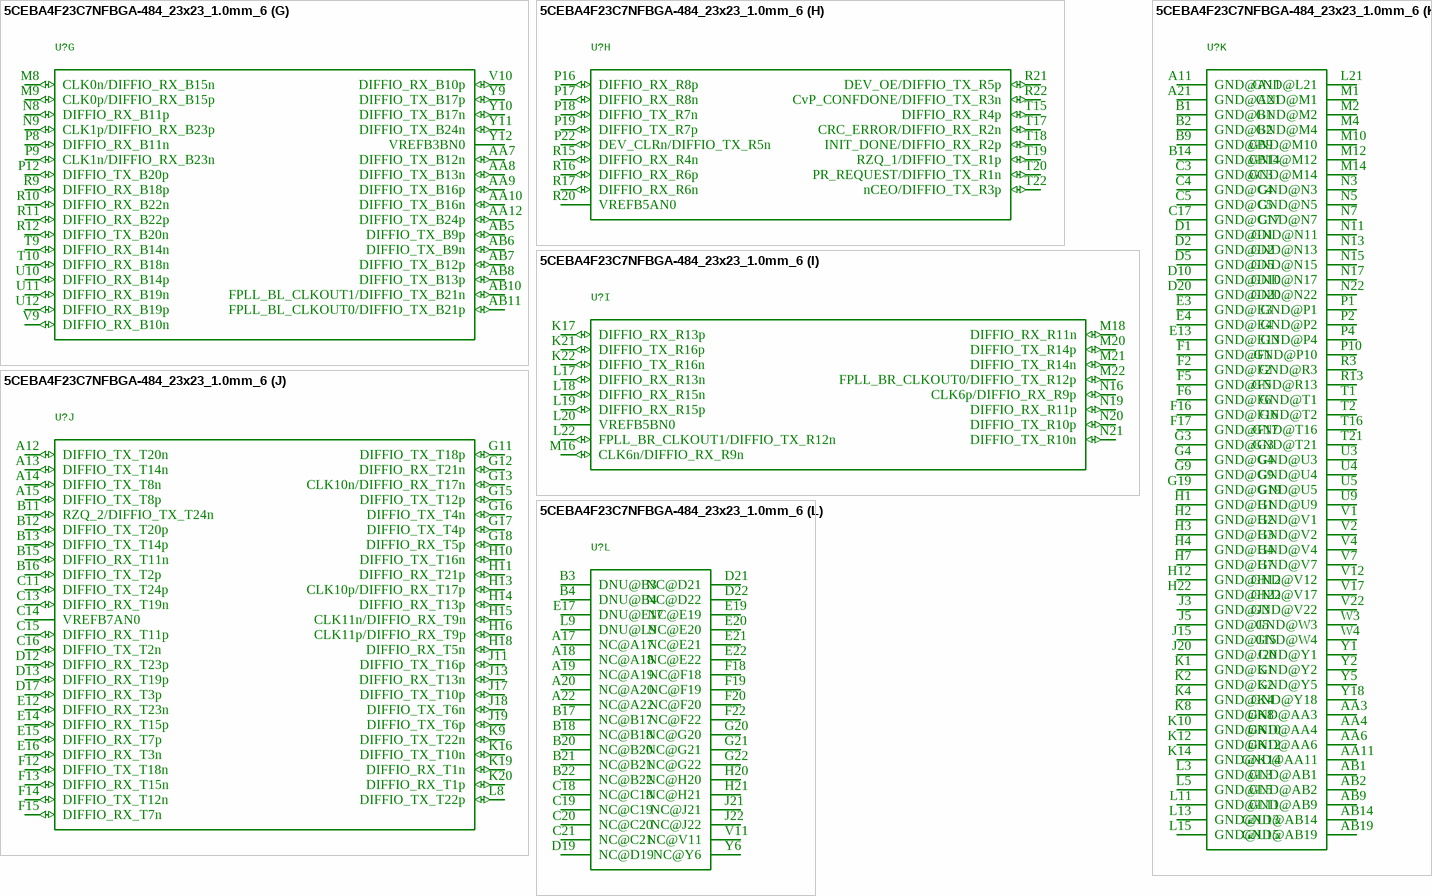
[diagram p9: symbol 5CEBA4F23C7NFBGA-484_23x23_1.0mm_6]

## 5CEBA4F23C7NFBGA-484_23x23_1.0mm_6
designator U?
GateName_1: A; SymbolName_1: 5CEBA4F23C7N_A; GateName_2: B; SymbolName_2: 5CEBA4F23C7N_B; GateName_3: C; SymbolName_3: 5CEBA4F23C7N_C; GateName_4: D; SymbolName_4: 5CEBA4F23C7N_D; GateName_5: E; SymbolName_5: 5CEBA4F23C7N_E; GateName_6: F; SymbolName_6: 5CEBA4F23C7N_F; GateName_7: G; SymbolName_7: 5CEBA4F23C7N_G; GateName_8: H; SymbolName_8: 5CEBA4F23C7N_H; GateName_9: I; SymbolName_9: 5CEBA4F23C7N_I; GateName_10: J; SymbolName_10: 5CEBA4F23C7N_J; GateName_11: K; SymbolName_11: 5CEBA4F23C7N_K; GateName_12: L; SymbolName_12: 5CEBA4F23C7N_L; DeviceName: FBGA-484_23x23_1.0mm; DeviceSetName: 5CEBA4F23C7N; LibraryName: MR26; Package: FBGA-484_23x23_1.0mm
footprint FBGA-484_23x23_1.0mm
part A pins: A1 RREF_TL, A3 VCCBAT (power), A6 VCCIO8A@A6 (power), A16 VCCIO7A@A16 (power), AA16 VCCIO4A@AA16 (power), AA21 VCCIO4A@AA21 (power), B19 VCCIO7A@B19 (power), C7 VCCIO8A@C7 (power), C10 VCCPD7A8A@C10 (power), C12 VCCIO7A@C12 (power), C22 VCCIO7A@C22 (power), D4 VCCIO2A@D4 (power), D8 VCCPD7A8A@D8 (power), D11 VCC_AUX@D11 (power), D14 VCCPD7A8A@D14 (power), D15 VCCIO7A@D15 (power), D16 VCCPD7A8A@D16 (power), D18 VCC_AUX@D18 (power), E1 VCCPD1A2A@E1 (power), E6 VCC_AUX@E6 (power), E8 VCCIO8A@E8 (power), E11 VCCPD7A8A@E11 (power), E18 VCCIO7A@E18 (power), F4 VCCA_FPLL@F4 (power), F8 VCCPGM@F8 (power), F11 VCCIO7A@F11 (power), F21 VCCIO7A@F21 (power), G7 VCCIO8A@G7 (power), G14 VCCIO7A@G14 (power), H17 VCCIO7A@H17 (power), H19 VCCA_FPLL@H19 (power), J1 VCCIO2A@J1 (power), J2 VCCPD1A2A@J2 (power), J4 VCC@J4 (power), J10 VCC@J10 (power), J12 VCC@J12 (power), J14 VCC@J14 (power), J16 VCC@J16 (power), K3 VCC@K3 (power), K5 VCC@K5 (power), K11 VCC@K11 (power), K13 VCC@K13 (power), K15 VCC@K15 (power), K18 VCCIO5B@K18 (power), L4 VCC@L4 (power), L10 VCC@L10 (power), L12 VCC@L12 (power), L14 VCC@L14 (power), L16 VCC@L16 (power), M3 VCCA_FPLL@M3 (power), M11 VCC@M11 (power), M13 VCC@M13 (power), M15 VCC@M15 (power), M17 VCCPD5B@M17 (power), M19 VCCIO5B@M19 (power), N4 VCC@N4 (power), N10 VCC@N10 (power), N12 VCC@N12 (power), N14 VCC@N14 (power), N18 VCCPD5B@N18 (power), P3 VCC@P3 (power), P11 VCC@P11 (power), P13 VCC@P13 (power), P15 VCC@P15 (power), P20 VCCIO5A@P20 (power), P21 VCCPD5A (power), R1 VCCIO2A@R1 (power), R2 VCCPD1A2A@R2 (power), R8 VCCIO3B@R8 (power), R18 VCCIO5A@R18 (power), R19 VCCPGM@R19 (power), T3 VCCA_FPLL@T3 (power), T5 VCCA_FPLL@T5 (power), T6 VCCIO3A@T6 (power), T11 VCCIO3B@T11 (power), U14 VCCIO4A@U14 (power), U18 VCCA_FPLL@U18 (power), U19 VCCIO4A@U19 (power), V8 VCCPGM@V8 (power), W6 VCCPD3A (power), W7 VCC_AUX@W7 (power), W10 VCCIO3B@W10 (power), W11 VCCPD3B4A@W11 (power), W12 VCCPD3B4A@W12 (power), W13 VCC_AUX@W13 (power), W14 VCCPD3B4A@W14 (power), W15 VCCIO4A@W15 (power), W17 VCCPD3B4A@W17 (power), W18 VCC_AUX@W18 (power), W20 VCCIO4A@W20 (power), Y4 VCCIO2A@Y4 (power), Y8 VCCIO3A@Y8 (power), Y13 VCCIO3B@Y13 (power)
part B pins: A2 MSEL2 (in), A4 nCONFIG (in), E5 MSEL3 (in), F3 MSEL4 (in), G5 nCE (in), H5 nSTATUS (oc), J6 MSEL1 (in), K6 CONF_DONE (oc), L6 MSEL0 (in)
part C pins: AA5 AS_DATA2 (io), AB3 AS_DATA1 (io), AB4 AS_DATA0,ASDO (io), M5 TDO (out), M6 PR_DONE/DIFFIO_RX_B7n (io), M7 PR_ERROR/DIFFIO_RX_B7p (io), N6 DATA12/DIFFIO_RX_B3p (io), P5 TMS (in), P6 DATA10/DIFFIO_RX_B3n (io), P7 DIFFIO_TX_B8p (io), R4 nCSO (out), R5 DATA8/DIFFIO_RX_B1p (io), R6 DATA6/DIFFIO_RX_B1n (io), R7 PR_READY/DIFFIO_TX_B8n (io), T4 AS_DATA3 (io), T7 DATA14/DIFFIO_RX_B5n (io), T8 CLKUSR/DIFFIO_RX_B5p (io), U6 DATA13/DIFFIO_TX_B6n (io), U7 DATA5/DIFFIO_TX_B2n (io), U8 DATA7/DIFFIO_TX_B2p (io), V3 DCLK (io), V5 TCK (in), V6 DATA15/DIFFIO_TX_B6p (io), W5 TDI (in), W8 DATA9/DIFFIO_TX_B4n (io), W9 DATA11/DIFFIO_TX_B4p (io), Y7 VREFB3AN0 (power)
part D pins: A5 DIFFIO_TX_T32p (io), A7 DIFFIO_RX_T35n (io), A8 DIFFIO_RX_T35p (io), A9 DIFFIO_TX_T30n (io), A10 DIFFIO_TX_T30p (io), B5 DIFFIO_TX_T32n (io), B6 DIFFIO_TX_T34p (io), B7 DIFFIO_TX_T34n (io), B8 VREFB8AN0 (power), B10 DIFFIO_RX_T31p (io), C6 DIFFIO_TX_T36p (io), C8 DIFFIO_TX_T38n (io), C9 DIFFIO_RX_T31n (io), D6 DIFFIO_TX_T36n (io), D7 DIFFIO_TX_T38p (io), D9 DIFFIO_RX_T37n (io), E7 DIFFIO_TX_T40n (io), E9 DIFFIO_RX_T37p (io), E10 CLK8p/DIFFIO_RX_T33p (io), F7 DIFFIO_TX_T40p (io), F9 CLK8n/DIFFIO_RX_T33n (io), F10 CLK9n/DIFFIO_RX_T25n (io), G6 DIFFIO_RX_T39p (io), G8 FPLL_TL_CLKOUT1/DIFFIO_TX_T28n (io), G10 CLK9p/DIFFIO_RX_T25p (io), H6 DIFFIO_RX_T39n (io), H8 FPLL_TL_CLKOUT0/DIFFIO_TX_T28p (io), H9 DIFFIO_RX_T29n (io), J7 DIFFIO_RX_T27p (io), J8 DIFFIO_RX_T27n (io), J9 DIFFIO_RX_T29p (io), K7 DIFFIO_TX_T26n (io), L7 DIFFIO_TX_T26p (io)
part E pins: AA13 DIFFIO_TX_B28p (io), AA14 DIFFIO_TX_B28n (io), AA15 DIFFIO_TX_B29p (io), AA17 DIFFIO_TX_B36n (io), AA18 DIFFIO_TX_B36p (io), AA19 DIFFIO_TX_B37n (io), AA20 DIFFIO_TX_B37p (io), AA22 DIFFIO_TX_B40p (io), AB12 DIFFIO_TX_B25p (io), AB13 RZQ_0/DIFFIO_TX_B25n (io), AB15 DIFFIO_TX_B29n (io), AB16 VREFB4AN0 (power), AB17 DIFFIO_TX_B32n (io), AB18 DIFFIO_TX_B32p (io), AB20 DIFFIO_TX_B33n (io), AB21 DIFFIO_TX_B33p (io), AB22 DIFFIO_TX_B40n (io), P14 DIFFIO_RX_B43n (io), R14 DIFFIO_RX_B43p (io), T12 DIFFIO_RX_B27n (io), T13 DIFFIO_RX_B27p (io), T14 DIFFIO_RX_B35n (io), U13 DIFFIO_RX_B26p (io), U15 DIFFIO_RX_B35p (io), U16 DIFFIO_RX_B47n (io), U17 DIFFIO_RX_B47p (io), U20 DIFFIO_TX_B48p (io), U21 DIFFIO_TX_B48n (io), U22 DIFFIO_TX_B45n (io), V13 DIFFIO_RX_B26n (io), V14 CLK2n/DIFFIO_RX_B31n (io), V15 CLK2p/DIFFIO_RX_B31p (io), V16 CLK3n/DIFFIO_RX_B39n (io), V18 DIFFIO_RX_B46p (io), V19 DIFFIO_RX_B46n (io), V20 DIFFIO_RX_B38n (io), V21 DIFFIO_TX_B45p (io), W16 CLK3p/DIFFIO_RX_B39p (io), W19 DIFFIO_RX_B38p (io), W21 DIFFIO_TX_B44p (io), W22 DIFFIO_TX_B41p (io), Y14 DIFFIO_RX_B30n (io), Y15 DIFFIO_RX_B30p (io), Y16 DIFFIO_RX_B34n (io), Y17 DIFFIO_RX_B34p (io), Y19 DIFFIO_RX_B42p (io), Y20 DIFFIO_RX_B42n (io), Y21 DIFFIO_TX_B44n (io), Y22 DIFFIO_TX_B41n (io)
part F pins: AA1 DIFFIO_TX_L16n (io), AA2 DIFFIO_TX_L16p (io), C1 DIFFIO_TX_L9n (io), C2 DIFFIO_TX_L9p (io), D3 DIFFIO_RX_L11p (io), E2 DIFFIO_RX_L11n (io), G1 DIFFIO_RX_L10n (io), G2 DIFFIO_RX_L10p (io), L1 DIFFIO_TX_L12n (io), L2 DIFFIO_TX_L12p (io), N1 DIFFIO_TX_L13n (io), N2 DIFFIO_TX_L13p (io), U1 DIFFIO_RX_L14n (io), U2 DIFFIO_RX_L14p (io), W1 VREFB2AN0 (power), W2 DIFFIO_RX_L15n (io), Y3 DIFFIO_RX_L15p (io)
part G pins: AA7 DIFFIO_TX_B12n (io), AA8 DIFFIO_TX_B13n (io), AA9 DIFFIO_TX_B16p (io), AA10 DIFFIO_TX_B16n (io), AA12 DIFFIO_TX_B24p (io), AB5 DIFFIO_TX_B9p (io), AB6 DIFFIO_TX_B9n (io), AB7 DIFFIO_TX_B12p (io), AB8 DIFFIO_TX_B13p (io), AB10 FPLL_BL_CLKOUT1/DIFFIO_TX_B21n (io), AB11 FPLL_BL_CLKOUT0/DIFFIO_TX_B21p (io), M8 CLK0n/DIFFIO_RX_B15n (io), M9 CLK0p/DIFFIO_RX_B15p (io), N8 DIFFIO_RX_B11p (io), N9 CLK1p/DIFFIO_RX_B23p (io), P8 DIFFIO_RX_B11n (io), P9 CLK1n/DIFFIO_RX_B23n (io), P12 DIFFIO_TX_B20p (io), R9 DIFFIO_RX_B18p (io), R10 DIFFIO_RX_B22n (io), R11 DIFFIO_RX_B22p (io), R12 DIFFIO_TX_B20n (io), T9 DIFFIO_RX_B14n (io), T10 DIFFIO_RX_B18n (io), U10 DIFFIO_RX_B14p (io), U11 DIFFIO_RX_B19n (io), U12 DIFFIO_RX_B19p (io), V9 DIFFIO_RX_B10n (io), V10 DIFFIO_RX_B10p (io), Y9 DIFFIO_TX_B17p (io), Y10 DIFFIO_TX_B17n (io), Y11 DIFFIO_TX_B24n (io), Y12 VREFB3BN0 (power)
part H pins: P16 DIFFIO_RX_R8p (io), P17 DIFFIO_RX_R8n (io), P18 DIFFIO_TX_R7n (io), P19 DIFFIO_TX_R7p (io), P22 DEV_CLRn/DIFFIO_TX_R5n (io), R15 DIFFIO_RX_R4n (io), R16 DIFFIO_RX_R6p (io), R17 DIFFIO_RX_R6n (io), R20 VREFB5AN0 (power), R21 DEV_OE/DIFFIO_TX_R5p (io), R22 CvP_CONFDONE/DIFFIO_TX_R3n (io), T15 DIFFIO_RX_R4p (io), T17 CRC_ERROR/DIFFIO_RX_R2n (io), T18 INIT_DONE/DIFFIO_RX_R2p (io), T19 RZQ_1/DIFFIO_TX_R1p (io), T20 PR_REQUEST/DIFFIO_TX_R1n (io), T22 nCEO/DIFFIO_TX_R3p (io)
part I pins: K17 DIFFIO_RX_R13p (io), K21 DIFFIO_TX_R16p (io), K22 DIFFIO_TX_R16n (io), L17 DIFFIO_RX_R13n (io), L18 DIFFIO_RX_R15n (io), L19 DIFFIO_RX_R15p (io), L20 VREFB5BN0 (power), L22 FPLL_BR_CLKOUT1/DIFFIO_TX_R12n (io), M16 CLK6n/DIFFIO_RX_R9n (io), M18 DIFFIO_RX_R11n (io), M20 DIFFIO_TX_R14p (io), M21 DIFFIO_TX_R14n (io), M22 FPLL_BR_CLKOUT0/DIFFIO_TX_R12p (io), N16 CLK6p/DIFFIO_RX_R9p (io), N19 DIFFIO_RX_R11p (io), N20 DIFFIO_TX_R10p (io), N21 DIFFIO_TX_R10n (io)
part J pins: A12 DIFFIO_TX_T20n (io), A13 DIFFIO_TX_T14n (io), A14 DIFFIO_TX_T8n (io), A15 DIFFIO_TX_T8p (io), B11 RZQ_2/DIFFIO_TX_T24n (io), B12 DIFFIO_TX_T20p (io), B13 DIFFIO_TX_T14p (io), B15 DIFFIO_RX_T11n (io), B16 DIFFIO_TX_T2p (io), C11 DIFFIO_TX_T24p (io), C13 DIFFIO_RX_T19n (io), C14 VREFB7AN0 (power), C15 DIFFIO_RX_T11p (io), C16 DIFFIO_TX_T2n (io), D12 DIFFIO_RX_T23p (io), D13 DIFFIO_RX_T19p (io), D17 DIFFIO_RX_T3p (io), E12 DIFFIO_RX_T23n (io), E14 DIFFIO_RX_T15p (io), E15 DIFFIO_RX_T7p (io), E16 DIFFIO_RX_T3n (io), F12 DIFFIO_TX_T18n (io), F13 DIFFIO_RX_T15n (io), F14 DIFFIO_TX_T12n (io), F15 DIFFIO_RX_T7n (io), G11 DIFFIO_TX_T18p (io), G12 DIFFIO_RX_T21n (io), G13 CLK10n/DIFFIO_RX_T17n (io), G15 DIFFIO_TX_T12p (io), G16 DIFFIO_TX_T4n (io), G17 DIFFIO_TX_T4p (io), G18 DIFFIO_RX_T5p (io), H10 DIFFIO_TX_T16n (io), H11 DIFFIO_RX_T21p (io), H13 CLK10p/DIFFIO_RX_T17p (io), H14 DIFFIO_RX_T13p (io), H15 CLK11n/DIFFIO_RX_T9n (io), H16 CLK11p/DIFFIO_RX_T9p (io), H18 DIFFIO_RX_T5n (io), J11 DIFFIO_TX_T16p (io), J13 DIFFIO_RX_T13n (io), J17 DIFFIO_TX_T10p (io), J18 DIFFIO_TX_T6n (io), J19 DIFFIO_TX_T6p (io), K9 DIFFIO_TX_T22n (io), K16 DIFFIO_TX_T10n (io), K19 DIFFIO_RX_T1n (io), K20 DIFFIO_RX_T1p (io), L8 DIFFIO_TX_T22p (io)
part K pins: A11 GND@A11 (power), A21 GND@A21 (power), AA3 GND@AA3 (power), AA4 GND@AA4 (power), AA6 GND@AA6 (power), AA11 GND@AA11 (power), AB1 GND@AB1 (power), AB2 GND@AB2 (power), AB9 GND@AB9 (power), AB14 GND@AB14 (power), AB19 GND@AB19 (power), B1 GND@B1 (power), B2 GND@B2 (power), B9 GND@B9 (power), B14 GND@B14 (power), C3 GND@C3 (power), C4 GND@C4 (power), C5 GND@C5 (power), C17 GND@C17 (power), D1 GND@D1 (power), D2 GND@D2 (power), D5 GND@D5 (power), D10 GND@D10 (power), D20 GND@D20 (power), E3 GND@E3 (power), E4 GND@E4 (power), E13 GND@E13 (power), F1 GND@F1 (power), F2 GND@F2 (power), F5 GND@F5 (power), F6 GND@F6 (power), F16 GND@F16 (power), F17 GND@F17 (power), G3 GND@G3 (power), G4 GND@G4 (power), G9 GND@G9 (power), G19 GND@G19 (power), H1 GND@H1 (power), H2 GND@H2 (power), H3 GND@H3 (power), H4 GND@H4 (power), H7 GND@H7 (power), H12 GND@H12 (power), H22 GND@H22 (power), J3 GND@J3 (power), J5 GND@J5 (power), J15 GND@J15 (power), J20 GND@J20 (power), K1 GND@K1 (power), K2 GND@K2 (power), K4 GND@K4 (power), K8 GND@K8 (power), K10 GND@K10 (power), K12 GND@K12 (power), K14 GND@K14 (power), L3 GND@L3 (power), L5 GND@L5 (power), L11 GND@L11 (power), L13 GND@L13 (power), L15 GND@L15 (power), L21 GND@L21 (power), M1 GND@M1 (power), M2 GND@M2 (power), M4 GND@M4 (power), M10 GND@M10 (power), M12 GND@M12 (power), M14 GND@M14 (power), N3 GND@N3 (power), N5 GND@N5 (power), N7 GND@N7 (power), N11 GND@N11 (power), N13 GND@N13 (power), N15 GND@N15 (power), N17 GND@N17 (power), N22 GND@N22 (power), P1 GND@P1 (power), P2 GND@P2 (power), P4 GND@P4 (power), P10 GND@P10 (power), R3 GND@R3 (power), R13 GND@R13 (power), T1 GND@T1 (power), T2 GND@T2 (power), T16 GND@T16 (power), T21 GND@T21 (power), U3 GND@U3 (power), U4 GND@U4 (power), U5 GND@U5 (power), U9 GND@U9 (power), V1 GND@V1 (power), V2 GND@V2 (power), V4 GND@V4 (power), V7 GND@V7 (power), V12 GND@V12 (power), V17 GND@V17 (power), V22 GND@V22 (power), W3 GND@W3 (power), W4 GND@W4 (power), Y1 GND@Y1 (power), Y2 GND@Y2 (power), Y5 GND@Y5 (power), Y18 GND@Y18 (power)
part L pins: A17 NC@A17, A18 NC@A18, A19 NC@A19, A20 NC@A20, A22 NC@A22, B3 DNU@B3, B4 DNU@B4, B17 NC@B17, B18 NC@B18, B20 NC@B20, B21 NC@B21, B22 NC@B22, C18 NC@C18, C19 NC@C19, C20 NC@C20, C21 NC@C21, D19 NC@D19, D21 NC@D21, D22 NC@D22, E17 DNU@E17, E19 NC@E19, E20 NC@E20, E21 NC@E21, E22 NC@E22, F18 NC@F18, F19 NC@F19, F20 NC@F20, F22 NC@F22, G20 NC@G20, G21 NC@G21, G22 NC@G22, H20 NC@H20, H21 NC@H21, J21 NC@J21, J22 NC@J22, L9 DNU@L9, V11 NC@V11, Y6 NC@Y6

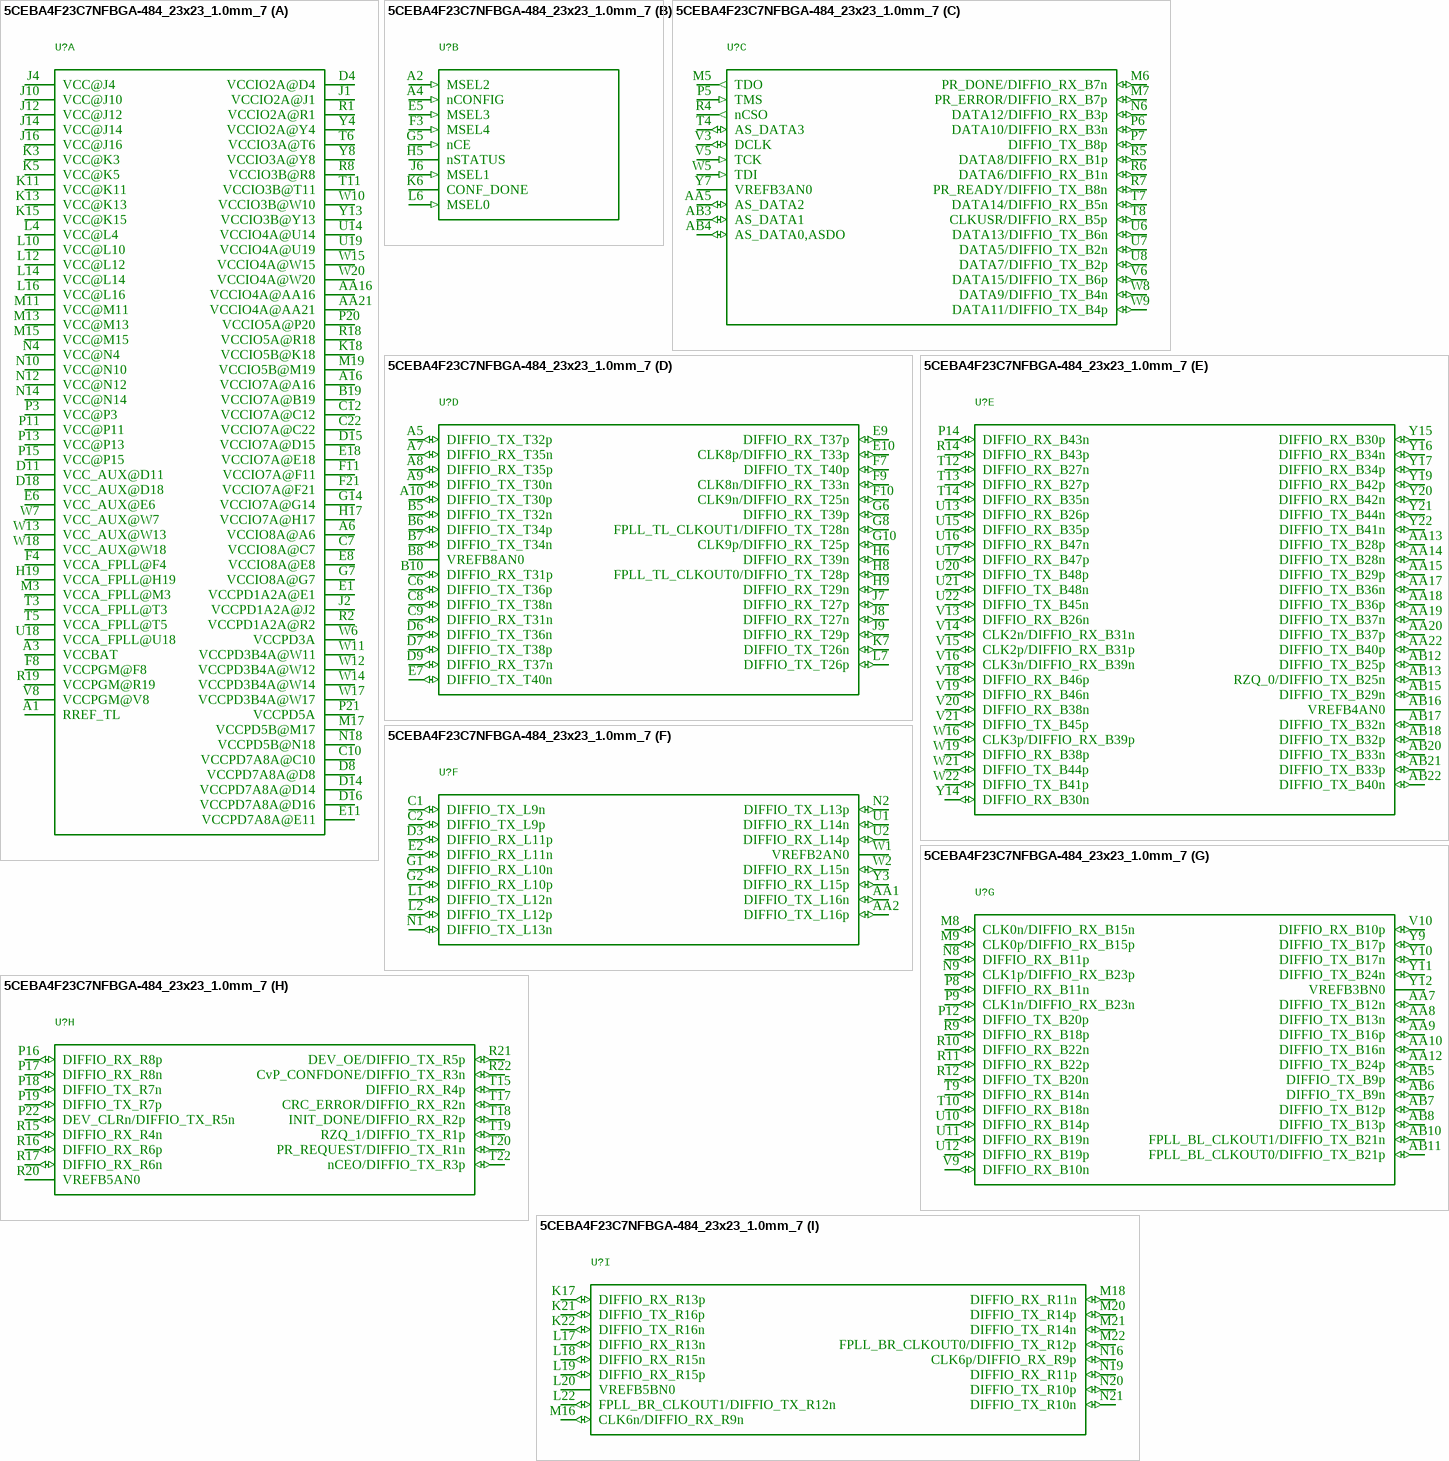
[diagram p10: symbol 5CEBA4F23C7NFBGA-484_23x23_1.0mm_7]

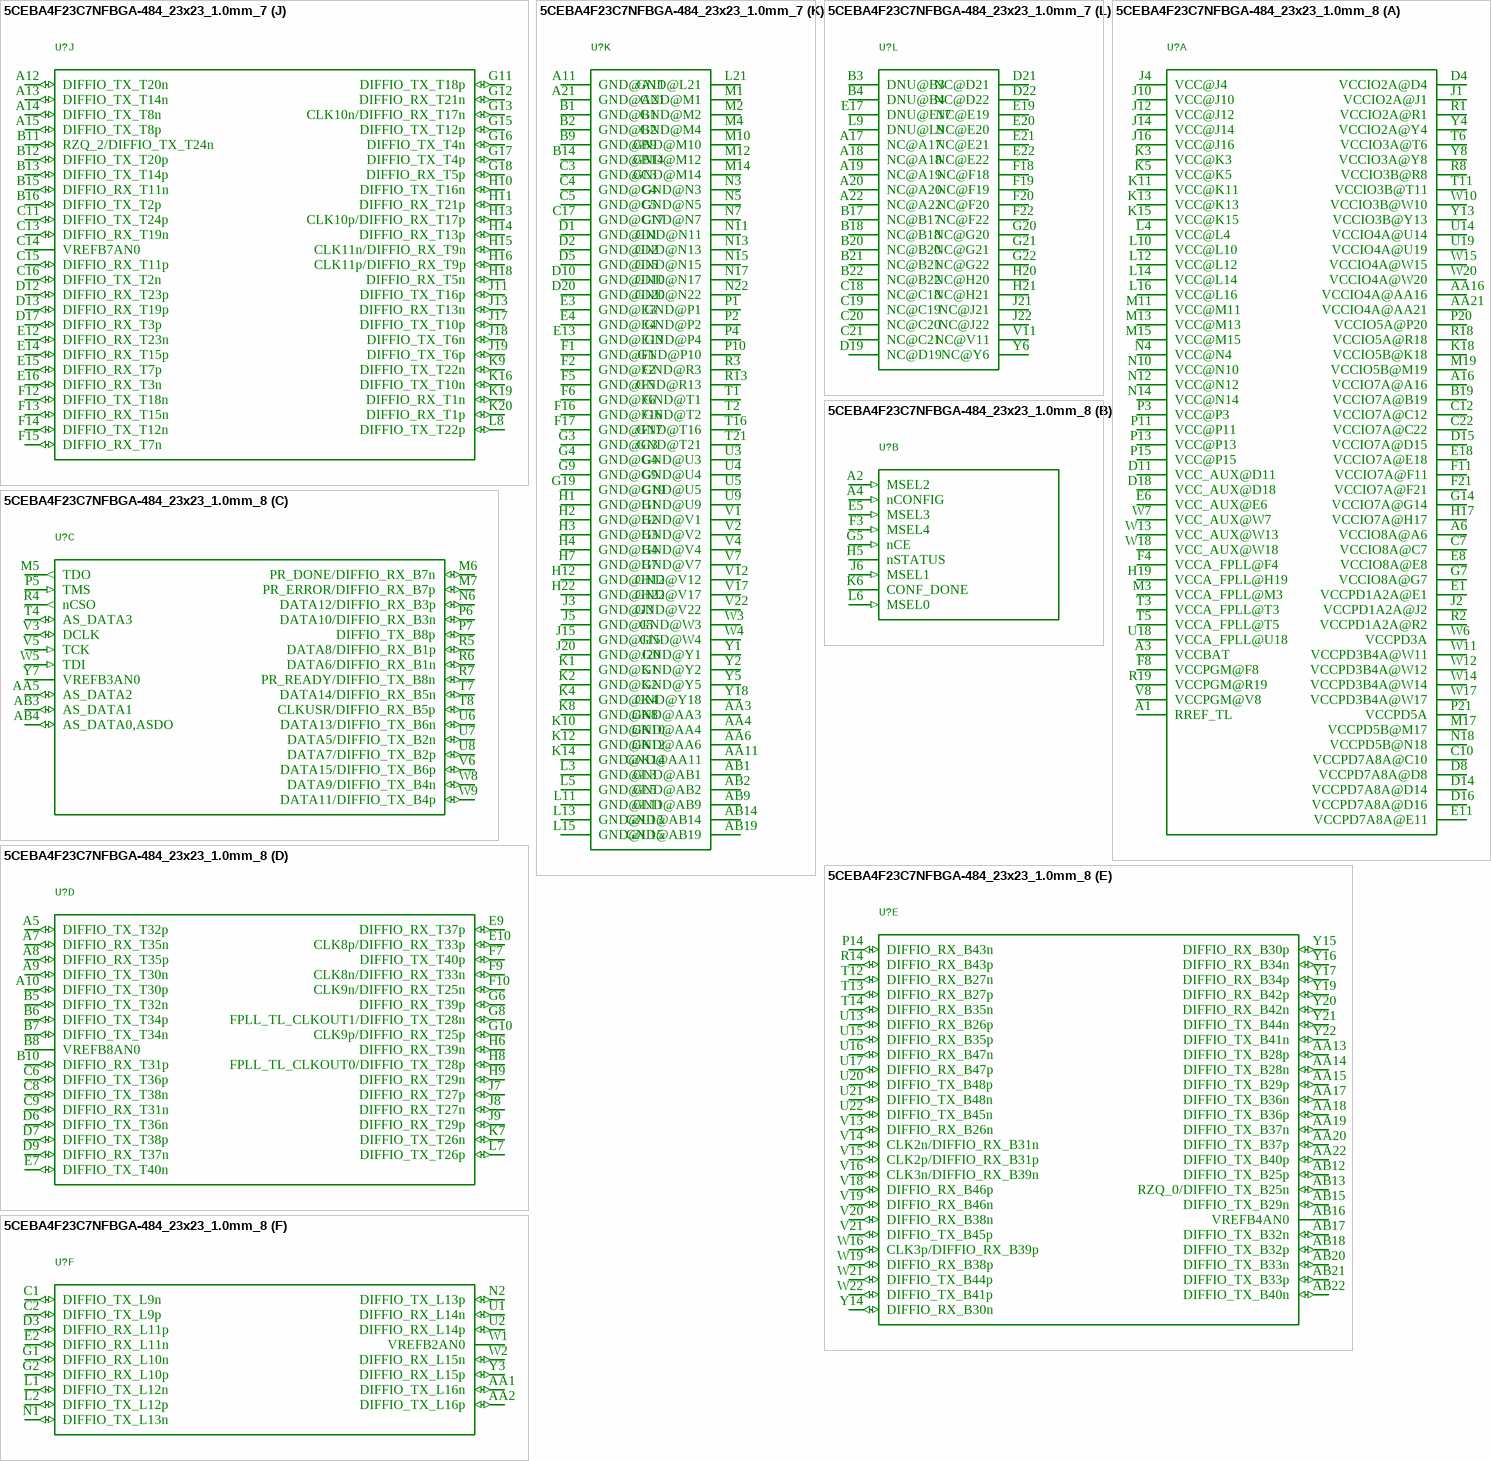
[diagram p11: symbols 5CEBA4F23C7NFBGA-484_23x23_1.0mm_7 to 5CEBA4F23C7NFBGA-484_23x23_1.0mm_8]

## 5CEBA4F23C7NFBGA-484_23x23_1.0mm_7
designator U?
GateName_1: A; SymbolName_1: 5CEBA4F23C7N_A; GateName_2: B; SymbolName_2: 5CEBA4F23C7N_B; GateName_3: C; SymbolName_3: 5CEBA4F23C7N_C; GateName_4: D; SymbolName_4: 5CEBA4F23C7N_D; GateName_5: E; SymbolName_5: 5CEBA4F23C7N_E; GateName_6: F; SymbolName_6: 5CEBA4F23C7N_F; GateName_7: G; SymbolName_7: 5CEBA4F23C7N_G; GateName_8: H; SymbolName_8: 5CEBA4F23C7N_H; GateName_9: I; SymbolName_9: 5CEBA4F23C7N_I; GateName_10: J; SymbolName_10: 5CEBA4F23C7N_J; GateName_11: K; SymbolName_11: 5CEBA4F23C7N_K; GateName_12: L; SymbolName_12: 5CEBA4F23C7N_L; DeviceName: FBGA-484_23x23_1.0mm; DeviceSetName: 5CEBA4F23C7N; LibraryName: MR26; Package: FBGA-484_23x23_1.0mm
footprint FBGA-484_23x23_1.0mm
part A pins: A1 RREF_TL, A3 VCCBAT (power), A6 VCCIO8A@A6 (power), A16 VCCIO7A@A16 (power), AA16 VCCIO4A@AA16 (power), AA21 VCCIO4A@AA21 (power), B19 VCCIO7A@B19 (power), C7 VCCIO8A@C7 (power), C10 VCCPD7A8A@C10 (power), C12 VCCIO7A@C12 (power), C22 VCCIO7A@C22 (power), D4 VCCIO2A@D4 (power), D8 VCCPD7A8A@D8 (power), D11 VCC_AUX@D11 (power), D14 VCCPD7A8A@D14 (power), D15 VCCIO7A@D15 (power), D16 VCCPD7A8A@D16 (power), D18 VCC_AUX@D18 (power), E1 VCCPD1A2A@E1 (power), E6 VCC_AUX@E6 (power), E8 VCCIO8A@E8 (power), E11 VCCPD7A8A@E11 (power), E18 VCCIO7A@E18 (power), F4 VCCA_FPLL@F4 (power), F8 VCCPGM@F8 (power), F11 VCCIO7A@F11 (power), F21 VCCIO7A@F21 (power), G7 VCCIO8A@G7 (power), G14 VCCIO7A@G14 (power), H17 VCCIO7A@H17 (power), H19 VCCA_FPLL@H19 (power), J1 VCCIO2A@J1 (power), J2 VCCPD1A2A@J2 (power), J4 VCC@J4 (power), J10 VCC@J10 (power), J12 VCC@J12 (power), J14 VCC@J14 (power), J16 VCC@J16 (power), K3 VCC@K3 (power), K5 VCC@K5 (power), K11 VCC@K11 (power), K13 VCC@K13 (power), K15 VCC@K15 (power), K18 VCCIO5B@K18 (power), L4 VCC@L4 (power), L10 VCC@L10 (power), L12 VCC@L12 (power), L14 VCC@L14 (power), L16 VCC@L16 (power), M3 VCCA_FPLL@M3 (power), M11 VCC@M11 (power), M13 VCC@M13 (power), M15 VCC@M15 (power), M17 VCCPD5B@M17 (power), M19 VCCIO5B@M19 (power), N4 VCC@N4 (power), N10 VCC@N10 (power), N12 VCC@N12 (power), N14 VCC@N14 (power), N18 VCCPD5B@N18 (power), P3 VCC@P3 (power), P11 VCC@P11 (power), P13 VCC@P13 (power), P15 VCC@P15 (power), P20 VCCIO5A@P20 (power), P21 VCCPD5A (power), R1 VCCIO2A@R1 (power), R2 VCCPD1A2A@R2 (power), R8 VCCIO3B@R8 (power), R18 VCCIO5A@R18 (power), R19 VCCPGM@R19 (power), T3 VCCA_FPLL@T3 (power), T5 VCCA_FPLL@T5 (power), T6 VCCIO3A@T6 (power), T11 VCCIO3B@T11 (power), U14 VCCIO4A@U14 (power), U18 VCCA_FPLL@U18 (power), U19 VCCIO4A@U19 (power), V8 VCCPGM@V8 (power), W6 VCCPD3A (power), W7 VCC_AUX@W7 (power), W10 VCCIO3B@W10 (power), W11 VCCPD3B4A@W11 (power), W12 VCCPD3B4A@W12 (power), W13 VCC_AUX@W13 (power), W14 VCCPD3B4A@W14 (power), W15 VCCIO4A@W15 (power), W17 VCCPD3B4A@W17 (power), W18 VCC_AUX@W18 (power), W20 VCCIO4A@W20 (power), Y4 VCCIO2A@Y4 (power), Y8 VCCIO3A@Y8 (power), Y13 VCCIO3B@Y13 (power)
part B pins: A2 MSEL2 (in), A4 nCONFIG (in), E5 MSEL3 (in), F3 MSEL4 (in), G5 nCE (in), H5 nSTATUS (oc), J6 MSEL1 (in), K6 CONF_DONE (oc), L6 MSEL0 (in)
part C pins: AA5 AS_DATA2 (io), AB3 AS_DATA1 (io), AB4 AS_DATA0,ASDO (io), M5 TDO (out), M6 PR_DONE/DIFFIO_RX_B7n (io), M7 PR_ERROR/DIFFIO_RX_B7p (io), N6 DATA12/DIFFIO_RX_B3p (io), P5 TMS (in), P6 DATA10/DIFFIO_RX_B3n (io), P7 DIFFIO_TX_B8p (io), R4 nCSO (out), R5 DATA8/DIFFIO_RX_B1p (io), R6 DATA6/DIFFIO_RX_B1n (io), R7 PR_READY/DIFFIO_TX_B8n (io), T4 AS_DATA3 (io), T7 DATA14/DIFFIO_RX_B5n (io), T8 CLKUSR/DIFFIO_RX_B5p (io), U6 DATA13/DIFFIO_TX_B6n (io), U7 DATA5/DIFFIO_TX_B2n (io), U8 DATA7/DIFFIO_TX_B2p (io), V3 DCLK (io), V5 TCK (in), V6 DATA15/DIFFIO_TX_B6p (io), W5 TDI (in), W8 DATA9/DIFFIO_TX_B4n (io), W9 DATA11/DIFFIO_TX_B4p (io), Y7 VREFB3AN0 (power)
part D pins: A5 DIFFIO_TX_T32p (io), A7 DIFFIO_RX_T35n (io), A8 DIFFIO_RX_T35p (io), A9 DIFFIO_TX_T30n (io), A10 DIFFIO_TX_T30p (io), B5 DIFFIO_TX_T32n (io), B6 DIFFIO_TX_T34p (io), B7 DIFFIO_TX_T34n (io), B8 VREFB8AN0 (power), B10 DIFFIO_RX_T31p (io), C6 DIFFIO_TX_T36p (io), C8 DIFFIO_TX_T38n (io), C9 DIFFIO_RX_T31n (io), D6 DIFFIO_TX_T36n (io), D7 DIFFIO_TX_T38p (io), D9 DIFFIO_RX_T37n (io), E7 DIFFIO_TX_T40n (io), E9 DIFFIO_RX_T37p (io), E10 CLK8p/DIFFIO_RX_T33p (io), F7 DIFFIO_TX_T40p (io), F9 CLK8n/DIFFIO_RX_T33n (io), F10 CLK9n/DIFFIO_RX_T25n (io), G6 DIFFIO_RX_T39p (io), G8 FPLL_TL_CLKOUT1/DIFFIO_TX_T28n (io), G10 CLK9p/DIFFIO_RX_T25p (io), H6 DIFFIO_RX_T39n (io), H8 FPLL_TL_CLKOUT0/DIFFIO_TX_T28p (io), H9 DIFFIO_RX_T29n (io), J7 DIFFIO_RX_T27p (io), J8 DIFFIO_RX_T27n (io), J9 DIFFIO_RX_T29p (io), K7 DIFFIO_TX_T26n (io), L7 DIFFIO_TX_T26p (io)
part E pins: AA13 DIFFIO_TX_B28p (io), AA14 DIFFIO_TX_B28n (io), AA15 DIFFIO_TX_B29p (io), AA17 DIFFIO_TX_B36n (io), AA18 DIFFIO_TX_B36p (io), AA19 DIFFIO_TX_B37n (io), AA20 DIFFIO_TX_B37p (io), AA22 DIFFIO_TX_B40p (io), AB12 DIFFIO_TX_B25p (io), AB13 RZQ_0/DIFFIO_TX_B25n (io), AB15 DIFFIO_TX_B29n (io), AB16 VREFB4AN0 (power), AB17 DIFFIO_TX_B32n (io), AB18 DIFFIO_TX_B32p (io), AB20 DIFFIO_TX_B33n (io), AB21 DIFFIO_TX_B33p (io), AB22 DIFFIO_TX_B40n (io), P14 DIFFIO_RX_B43n (io), R14 DIFFIO_RX_B43p (io), T12 DIFFIO_RX_B27n (io), T13 DIFFIO_RX_B27p (io), T14 DIFFIO_RX_B35n (io), U13 DIFFIO_RX_B26p (io), U15 DIFFIO_RX_B35p (io), U16 DIFFIO_RX_B47n (io), U17 DIFFIO_RX_B47p (io), U20 DIFFIO_TX_B48p (io), U21 DIFFIO_TX_B48n (io), U22 DIFFIO_TX_B45n (io), V13 DIFFIO_RX_B26n (io), V14 CLK2n/DIFFIO_RX_B31n (io), V15 CLK2p/DIFFIO_RX_B31p (io), V16 CLK3n/DIFFIO_RX_B39n (io), V18 DIFFIO_RX_B46p (io), V19 DIFFIO_RX_B46n (io), V20 DIFFIO_RX_B38n (io), V21 DIFFIO_TX_B45p (io), W16 CLK3p/DIFFIO_RX_B39p (io), W19 DIFFIO_RX_B38p (io), W21 DIFFIO_TX_B44p (io), W22 DIFFIO_TX_B41p (io), Y14 DIFFIO_RX_B30n (io), Y15 DIFFIO_RX_B30p (io), Y16 DIFFIO_RX_B34n (io), Y17 DIFFIO_RX_B34p (io), Y19 DIFFIO_RX_B42p (io), Y20 DIFFIO_RX_B42n (io), Y21 DIFFIO_TX_B44n (io), Y22 DIFFIO_TX_B41n (io)
part F pins: AA1 DIFFIO_TX_L16n (io), AA2 DIFFIO_TX_L16p (io), C1 DIFFIO_TX_L9n (io), C2 DIFFIO_TX_L9p (io), D3 DIFFIO_RX_L11p (io), E2 DIFFIO_RX_L11n (io), G1 DIFFIO_RX_L10n (io), G2 DIFFIO_RX_L10p (io), L1 DIFFIO_TX_L12n (io), L2 DIFFIO_TX_L12p (io), N1 DIFFIO_TX_L13n (io), N2 DIFFIO_TX_L13p (io), U1 DIFFIO_RX_L14n (io), U2 DIFFIO_RX_L14p (io), W1 VREFB2AN0 (power), W2 DIFFIO_RX_L15n (io), Y3 DIFFIO_RX_L15p (io)
part G pins: AA7 DIFFIO_TX_B12n (io), AA8 DIFFIO_TX_B13n (io), AA9 DIFFIO_TX_B16p (io), AA10 DIFFIO_TX_B16n (io), AA12 DIFFIO_TX_B24p (io), AB5 DIFFIO_TX_B9p (io), AB6 DIFFIO_TX_B9n (io), AB7 DIFFIO_TX_B12p (io), AB8 DIFFIO_TX_B13p (io), AB10 FPLL_BL_CLKOUT1/DIFFIO_TX_B21n (io), AB11 FPLL_BL_CLKOUT0/DIFFIO_TX_B21p (io), M8 CLK0n/DIFFIO_RX_B15n (io), M9 CLK0p/DIFFIO_RX_B15p (io), N8 DIFFIO_RX_B11p (io), N9 CLK1p/DIFFIO_RX_B23p (io), P8 DIFFIO_RX_B11n (io), P9 CLK1n/DIFFIO_RX_B23n (io), P12 DIFFIO_TX_B20p (io), R9 DIFFIO_RX_B18p (io), R10 DIFFIO_RX_B22n (io), R11 DIFFIO_RX_B22p (io), R12 DIFFIO_TX_B20n (io), T9 DIFFIO_RX_B14n (io), T10 DIFFIO_RX_B18n (io), U10 DIFFIO_RX_B14p (io), U11 DIFFIO_RX_B19n (io), U12 DIFFIO_RX_B19p (io), V9 DIFFIO_RX_B10n (io), V10 DIFFIO_RX_B10p (io), Y9 DIFFIO_TX_B17p (io), Y10 DIFFIO_TX_B17n (io), Y11 DIFFIO_TX_B24n (io), Y12 VREFB3BN0 (power)
part H pins: P16 DIFFIO_RX_R8p (io), P17 DIFFIO_RX_R8n (io), P18 DIFFIO_TX_R7n (io), P19 DIFFIO_TX_R7p (io), P22 DEV_CLRn/DIFFIO_TX_R5n (io), R15 DIFFIO_RX_R4n (io), R16 DIFFIO_RX_R6p (io), R17 DIFFIO_RX_R6n (io), R20 VREFB5AN0 (power), R21 DEV_OE/DIFFIO_TX_R5p (io), R22 CvP_CONFDONE/DIFFIO_TX_R3n (io), T15 DIFFIO_RX_R4p (io), T17 CRC_ERROR/DIFFIO_RX_R2n (io), T18 INIT_DONE/DIFFIO_RX_R2p (io), T19 RZQ_1/DIFFIO_TX_R1p (io), T20 PR_REQUEST/DIFFIO_TX_R1n (io), T22 nCEO/DIFFIO_TX_R3p (io)
part I pins: K17 DIFFIO_RX_R13p (io), K21 DIFFIO_TX_R16p (io), K22 DIFFIO_TX_R16n (io), L17 DIFFIO_RX_R13n (io), L18 DIFFIO_RX_R15n (io), L19 DIFFIO_RX_R15p (io), L20 VREFB5BN0 (power), L22 FPLL_BR_CLKOUT1/DIFFIO_TX_R12n (io), M16 CLK6n/DIFFIO_RX_R9n (io), M18 DIFFIO_RX_R11n (io), M20 DIFFIO_TX_R14p (io), M21 DIFFIO_TX_R14n (io), M22 FPLL_BR_CLKOUT0/DIFFIO_TX_R12p (io), N16 CLK6p/DIFFIO_RX_R9p (io), N19 DIFFIO_RX_R11p (io), N20 DIFFIO_TX_R10p (io), N21 DIFFIO_TX_R10n (io)
part J pins: A12 DIFFIO_TX_T20n (io), A13 DIFFIO_TX_T14n (io), A14 DIFFIO_TX_T8n (io), A15 DIFFIO_TX_T8p (io), B11 RZQ_2/DIFFIO_TX_T24n (io), B12 DIFFIO_TX_T20p (io), B13 DIFFIO_TX_T14p (io), B15 DIFFIO_RX_T11n (io), B16 DIFFIO_TX_T2p (io), C11 DIFFIO_TX_T24p (io), C13 DIFFIO_RX_T19n (io), C14 VREFB7AN0 (power), C15 DIFFIO_RX_T11p (io), C16 DIFFIO_TX_T2n (io), D12 DIFFIO_RX_T23p (io), D13 DIFFIO_RX_T19p (io), D17 DIFFIO_RX_T3p (io), E12 DIFFIO_RX_T23n (io), E14 DIFFIO_RX_T15p (io), E15 DIFFIO_RX_T7p (io), E16 DIFFIO_RX_T3n (io), F12 DIFFIO_TX_T18n (io), F13 DIFFIO_RX_T15n (io), F14 DIFFIO_TX_T12n (io), F15 DIFFIO_RX_T7n (io), G11 DIFFIO_TX_T18p (io), G12 DIFFIO_RX_T21n (io), G13 CLK10n/DIFFIO_RX_T17n (io), G15 DIFFIO_TX_T12p (io), G16 DIFFIO_TX_T4n (io), G17 DIFFIO_TX_T4p (io), G18 DIFFIO_RX_T5p (io), H10 DIFFIO_TX_T16n (io), H11 DIFFIO_RX_T21p (io), H13 CLK10p/DIFFIO_RX_T17p (io), H14 DIFFIO_RX_T13p (io), H15 CLK11n/DIFFIO_RX_T9n (io), H16 CLK11p/DIFFIO_RX_T9p (io), H18 DIFFIO_RX_T5n (io), J11 DIFFIO_TX_T16p (io), J13 DIFFIO_RX_T13n (io), J17 DIFFIO_TX_T10p (io), J18 DIFFIO_TX_T6n (io), J19 DIFFIO_TX_T6p (io), K9 DIFFIO_TX_T22n (io), K16 DIFFIO_TX_T10n (io), K19 DIFFIO_RX_T1n (io), K20 DIFFIO_RX_T1p (io), L8 DIFFIO_TX_T22p (io)
part K pins: A11 GND@A11 (power), A21 GND@A21 (power), AA3 GND@AA3 (power), AA4 GND@AA4 (power), AA6 GND@AA6 (power), AA11 GND@AA11 (power), AB1 GND@AB1 (power), AB2 GND@AB2 (power), AB9 GND@AB9 (power), AB14 GND@AB14 (power), AB19 GND@AB19 (power), B1 GND@B1 (power), B2 GND@B2 (power), B9 GND@B9 (power), B14 GND@B14 (power), C3 GND@C3 (power), C4 GND@C4 (power), C5 GND@C5 (power), C17 GND@C17 (power), D1 GND@D1 (power), D2 GND@D2 (power), D5 GND@D5 (power), D10 GND@D10 (power), D20 GND@D20 (power), E3 GND@E3 (power), E4 GND@E4 (power), E13 GND@E13 (power), F1 GND@F1 (power), F2 GND@F2 (power), F5 GND@F5 (power), F6 GND@F6 (power), F16 GND@F16 (power), F17 GND@F17 (power), G3 GND@G3 (power), G4 GND@G4 (power), G9 GND@G9 (power), G19 GND@G19 (power), H1 GND@H1 (power), H2 GND@H2 (power), H3 GND@H3 (power), H4 GND@H4 (power), H7 GND@H7 (power), H12 GND@H12 (power), H22 GND@H22 (power), J3 GND@J3 (power), J5 GND@J5 (power), J15 GND@J15 (power), J20 GND@J20 (power), K1 GND@K1 (power), K2 GND@K2 (power), K4 GND@K4 (power), K8 GND@K8 (power), K10 GND@K10 (power), K12 GND@K12 (power), K14 GND@K14 (power), L3 GND@L3 (power), L5 GND@L5 (power), L11 GND@L11 (power), L13 GND@L13 (power), L15 GND@L15 (power), L21 GND@L21 (power), M1 GND@M1 (power), M2 GND@M2 (power), M4 GND@M4 (power), M10 GND@M10 (power), M12 GND@M12 (power), M14 GND@M14 (power), N3 GND@N3 (power), N5 GND@N5 (power), N7 GND@N7 (power), N11 GND@N11 (power), N13 GND@N13 (power), N15 GND@N15 (power), N17 GND@N17 (power), N22 GND@N22 (power), P1 GND@P1 (power), P2 GND@P2 (power), P4 GND@P4 (power), P10 GND@P10 (power), R3 GND@R3 (power), R13 GND@R13 (power), T1 GND@T1 (power), T2 GND@T2 (power), T16 GND@T16 (power), T21 GND@T21 (power), U3 GND@U3 (power), U4 GND@U4 (power), U5 GND@U5 (power), U9 GND@U9 (power), V1 GND@V1 (power), V2 GND@V2 (power), V4 GND@V4 (power), V7 GND@V7 (power), V12 GND@V12 (power), V17 GND@V17 (power), V22 GND@V22 (power), W3 GND@W3 (power), W4 GND@W4 (power), Y1 GND@Y1 (power), Y2 GND@Y2 (power), Y5 GND@Y5 (power), Y18 GND@Y18 (power)
part L pins: A17 NC@A17, A18 NC@A18, A19 NC@A19, A20 NC@A20, A22 NC@A22, B3 DNU@B3, B4 DNU@B4, B17 NC@B17, B18 NC@B18, B20 NC@B20, B21 NC@B21, B22 NC@B22, C18 NC@C18, C19 NC@C19, C20 NC@C20, C21 NC@C21, D19 NC@D19, D21 NC@D21, D22 NC@D22, E17 DNU@E17, E19 NC@E19, E20 NC@E20, E21 NC@E21, E22 NC@E22, F18 NC@F18, F19 NC@F19, F20 NC@F20, F22 NC@F22, G20 NC@G20, G21 NC@G21, G22 NC@G22, H20 NC@H20, H21 NC@H21, J21 NC@J21, J22 NC@J22, L9 DNU@L9, V11 NC@V11, Y6 NC@Y6

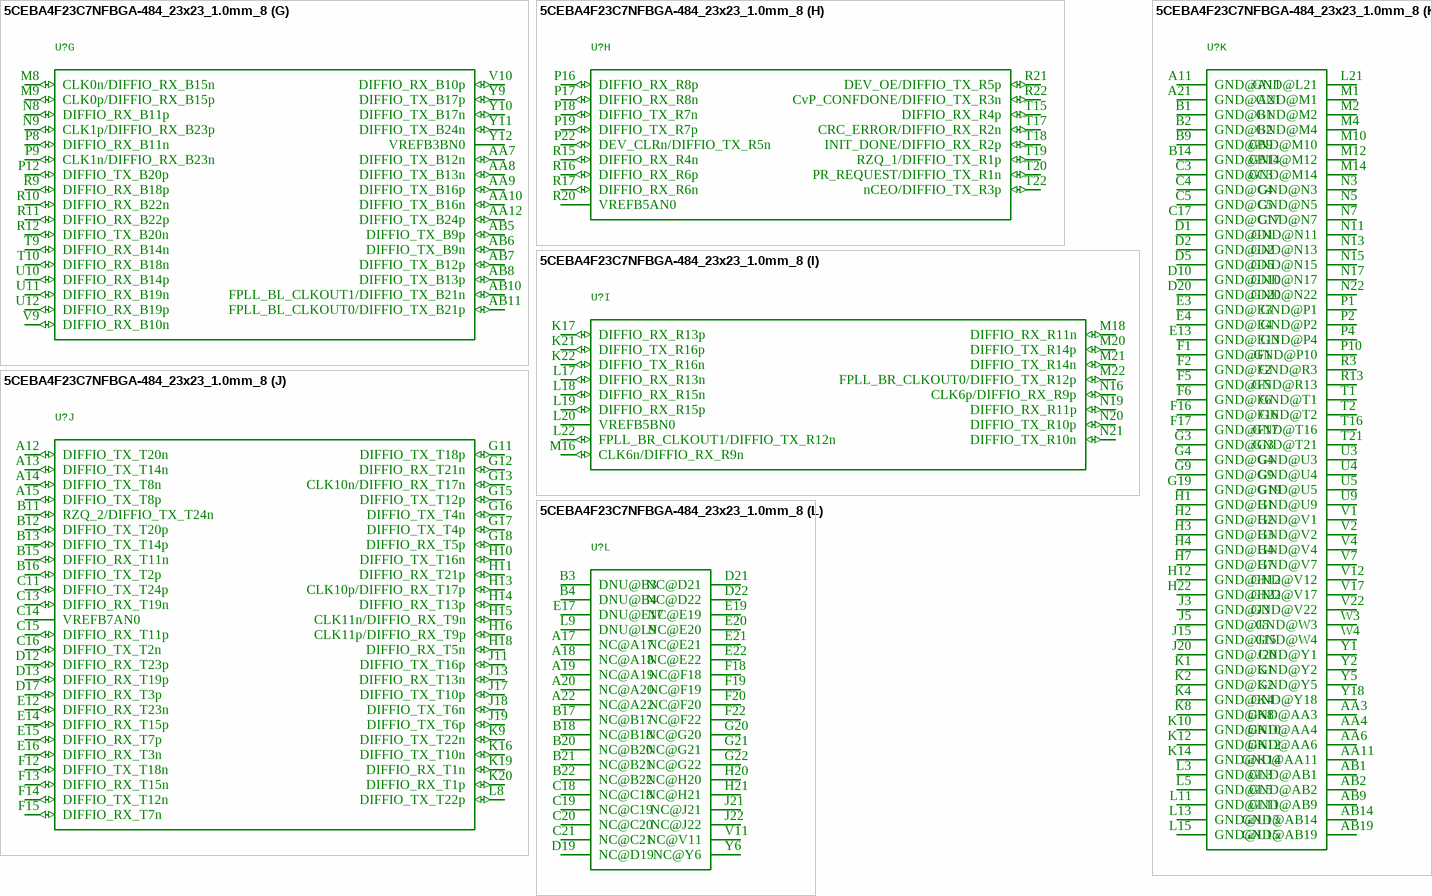
[diagram p12: symbol 5CEBA4F23C7NFBGA-484_23x23_1.0mm_8]